# Altium schematic symbol library Sajad_Altium_Library.SchLib: 340 symbols (part 1 of 4)
Pins are listed as number, name and electrical type; pins without a type are passive.

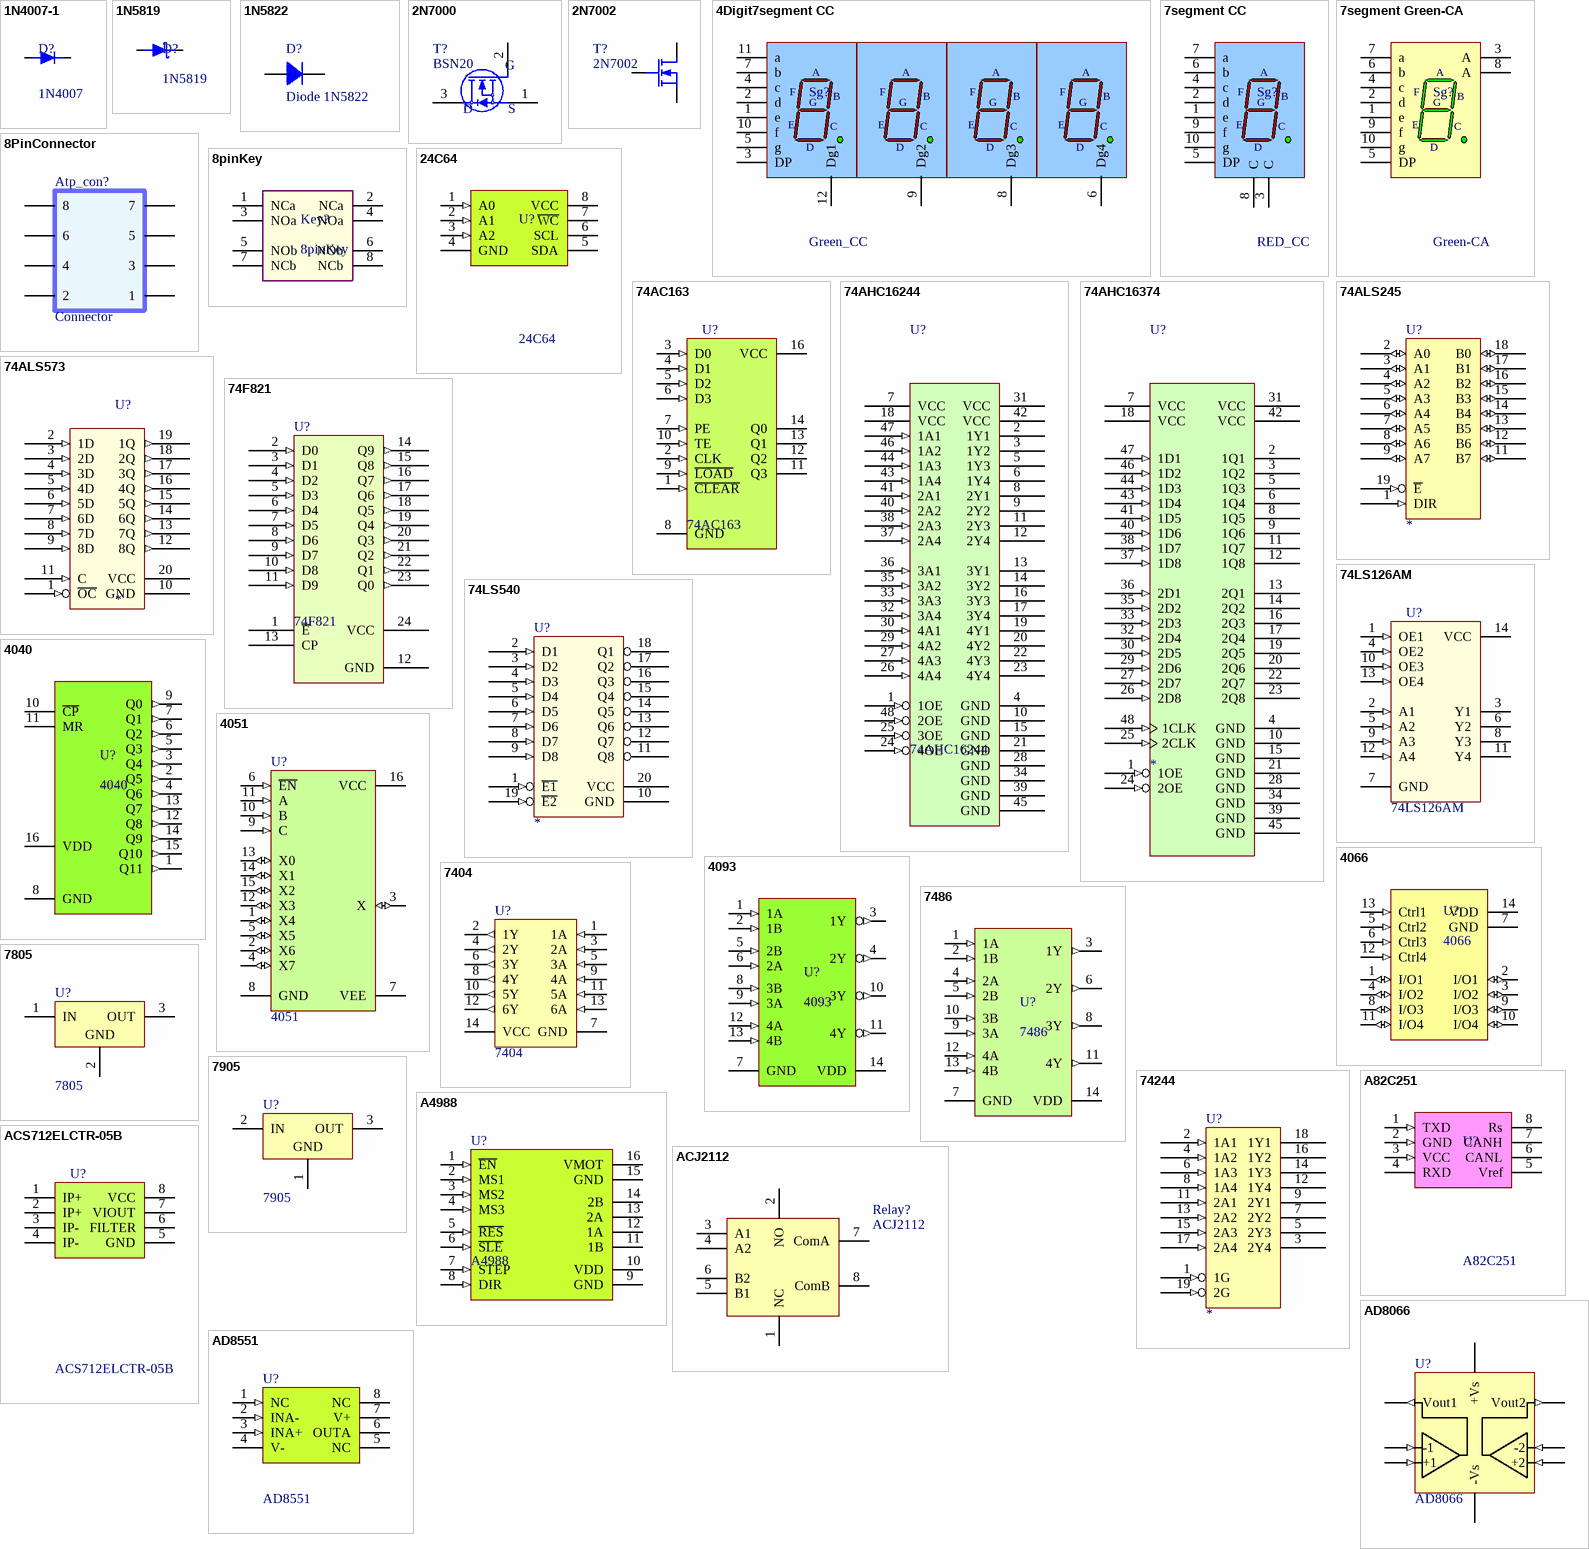
[diagram p0: symbols 1N4007-1 to AD8551]

## 1N4007-1
designator D?, comment 1N4007
1N4007 smd diode
footprint DO-214AC (1N4001-7 SMD DIODE)
footprint Diode -standing (Axial)
pins: 1 A, 2 K

## 1N5819
designator D?
1N5819 Schottky diode
footprint DO-214AC (1N4001-7 SMD DIODE)
footprint Diode -standing (Axial)
pins: 1 A, 2 K

## 1N5822
designator D?, comment Diode 1N5822
3 Amp Medium Power Silicon Rectifier Diode; Published: 8-Jun-2000; LatestRevisionDate: 17-Jul-2002; LatestRevisionNote: Re-released for DXP Platform.; DatasheetDocument: Aug-1984; PackageReference: DO-201AD; Publisher: Altium Limited; ComponentLink1Description: Manufacturer Link; ComponentLink1URL: http://www.irf.com/
footprint DO-201AD (Diode, Axial; Body 9.5 x 5.6 mm (LxDia. max), Lead Dia. 1.32 mm (max))
pins: 1 A, 2 K

## 2N7000
designator T?, comment BSN20
footprint SOT23-3L (Footprint not found)
footprint SOT23-213 (Footprint not found)
pins: 1 S, 2 G, 3 D

## 2N7002
designator T?
N-Channel Enhancement Mode Field Effect Transistor
footprint SOT23
pins: 1 G, 2 S, 3 D

## 4Digit7segment CC
designator Sg?, comment Green_CC
4 Digit 7-Segment Display: CC,; Colour: Green; ComponentLink1Description: Manufacturer Link; ComponentLink1URL: http://www.agilent.com/
footprint 4Digit 7SEGMENT
pins: 1 e "Cathode", 2 d "Cathode", 3 DP "Cathode", 4 c "Cathode", 5 g "Cathode", 6 Dg4 "Anode", 7 b "Cathode", 8 Dg3 "Anode", 9 Dg2 "Anode", 10 f "Cathode", 11 a "Cathode", 12 Dg1 "Anode"
text: A; F; B; G; E; C; D

## 7segment CC
designator Sg?, comment RED_CC
7-Segment Display: CC, RH DP; Colour: Green; ComponentLink1Description: Manufacturer Link; ComponentLink1URL: http://www.agilent.com/
footprint 7SEGMENT
pins: 1 e "Cathode", 2 d "Cathode", 3 C "Anode", 4 c "Cathode", 5 DP "Cathode", 6 b "Cathode", 7 a "Cathode", 8 C "Anode", 9 f "Cathode", 10 g "Cathode"
text: A; F; B; G; E; D

## 7segment Green-CA
designator Sg?, comment Green-CA
7-Segment Display: CA, RH DP; Colour: Green; ComponentLink1Description: Manufacturer Link; ComponentLink1URL: http://www.agilent.com/
footprint 7SEGMENT
pins: 1 e "Cathode", 2 d "Cathode", 3 A "Anode", 4 c "Cathode", 5 DP "Cathode", 6 b "Cathode", 7 a "Cathode", 8 A "Anode", 9 f "Cathode", 10 g "Cathode"
text: F; B; G; E; C; D

## 8PinConnector
designator Atp_con?, comment Connector
8PinConnector for Anti pinch 206
footprint 8pinConnector (8PinConnector for Anti pinch 206)
footprint 8PinConnector2 (ATP Connector)
pins: 1 (power), 2 (power), 3 (power), 4 (power), 5 (power), 6 (power), 7 (power), 8 (power)

## 8pinKey
designator Key?
footprint 8pinKey (8PinKey)
pins: 1 NCa, 2 NCa, 3 NOa, 4 NOa, 5 NOb, 6 NOb, 7 NCb, 8 NCb

## 24C64
designator U?
64Kbit Serial I²C Bus EEPROM
footprint SO8
pins: 1 A0 (in), 2 A1 (in), 3 A2 (in), 4 GND (power), 5 SDA (power), 6 SCL, 7 ~{WC} (power), 8 VCC (power)

## 74AC163
designator U?
SYNCHRONOUS PRESETTABLE 4-BIT COUNTER
footprint SO16
pins: 1 ~{CLEAR} (in), 2 CLK (in), 3 D0 (in), 4 D1 (in), 5 D2 (in), 6 D3 (in), 7 PE (in), 8 GND (power), 9 ~{LOAD} (in), 10 TE (in), 11 Q3 (hiz), 12 Q2 (hiz), 13 Q1 (hiz), 14 Q0 (hiz), 16 VCC (power)

## 74AHC16244
designator U?
16-Bit Buffer with 3-State Outputs
footprint TSSOP48
footprint TVSOP48
footprint SSOP48
pins: 1 1OE (in), 2 1Y1 (hiz), 3 1Y2 (hiz), 4 GND (power), 5 1Y3 (hiz), 6 1Y4 (hiz), 7 VCC (power), 8 2Y1 (hiz), 9 2Y2 (hiz), 10 GND (power), 11 2Y3 (hiz), 12 2Y4 (hiz), 13 3Y1 (hiz), 14 3Y2 (hiz), 15 GND (power), 16 3Y3 (hiz), 17 3Y4 (hiz), 18 VCC (power), 19 4Y1 (hiz), 20 4Y2 (hiz), 21 GND (power), 22 4Y3 (hiz), 23 4Y4 (hiz), 24 4OE (in), 25 3OE (in), 26 4A4 (in), 27 4A3 (in), 28 GND (power), 29 4A2 (in), 30 4A1 (in), 31 VCC (power), 32 3A4 (in), 33 3A3 (in), 34 GND (power), 35 3A2 (in), 36 3A1 (in), 37 2A4 (in), 38 2A3 (in), 39 GND (power), 40 2A2 (in), 41 2A1 (in), 42 VCC (power), 43 1A4 (in), 44 1A3 (in), 45 GND (power), 46 1A2 (in), 47 1A1 (in), 48 2OE (in)

## 74AHC16374
designator U?
16-Bit Edge-Triggered D-Type Flip-Flops with 3-State Outputs
footprint TSSOP48
footprint TVSOP48
footprint SSOP48
pins: 1 1OE (in), 2 1Q1 (hiz), 3 1Q2 (hiz), 4 GND (power), 5 1Q3 (hiz), 6 1Q4 (hiz), 7 VCC (power), 8 1Q5 (hiz), 9 1Q6 (hiz), 10 GND (power), 11 1Q7 (hiz), 12 1Q8 (hiz), 13 2Q1 (hiz), 14 2Q2 (hiz), 15 GND (power), 16 2Q3 (hiz), 17 2Q4 (hiz), 18 VCC (power), 19 2Q5 (hiz), 20 2Q6 (hiz), 21 GND (power), 22 2Q7 (hiz), 23 2Q8 (hiz), 24 2OE (in), 25 2CLK (in), 26 2D8 (in), 27 2D7 (in), 28 GND (power), 29 2D6 (in), 30 2D5 (in), 31 VCC (power), 32 2D4 (in), 33 2D3 (in), 34 GND (power), 35 2D2 (in), 36 2D1 (in), 37 1D8 (in), 38 1D7 (in), 39 GND (power), 40 1D6 (in), 41 1D5 (in), 42 VCC (power), 43 1D4 (in), 44 1D3 (in), 45 GND (power), 46 1D2 (in), 47 1D1 (in), 48 1CLK (in)

## 74ALS245
designator U?
Octal Bus Transceiver
footprint DIP20
footprint SOL-20
footprint DIPS20
footprint SSOP20
pins: 1 DIR (in), 2 A0 (io), 3 A1 (io), 4 A2 (io), 5 A3 (io), 6 A4 (io), 7 A5 (io), 8 A6 (io), 9 A7 (io), 10 GND (power) hidden to GND, 11 B7 (io), 12 B6 (io), 13 B5 (io), 14 B4 (io), 15 B3 (io), 16 B2 (io), 17 B1 (io), 18 B0 (io), 19 ~{E} (in), 20 VCC (power) hidden to VCC

## 74ALS573
designator U?
Octal Transparent Latch
footprint DIP20
footprint SOL-20
footprint SSOP20
pins: 1 ~{OC} (in), 2 1D (in), 3 2D (in), 4 3D (in), 5 4D (in), 6 5D (in), 7 6D (in), 8 7D (in), 9 8D (in), 10 GND (power), 11 C (in), 12 8Q (out), 13 7Q (out), 14 6Q (out), 15 5Q (out), 16 4Q (out), 17 3Q (out), 18 2Q (out), 19 1Q (out), 20 VCC (power)

## 74F821
designator U?
10-bit bus interface register, non-inverting (3-State)
pins: 1 ~{E}, 2 D0 (in), 3 D1 (in), 4 D2 (in), 5 D3 (in), 6 D4 (in), 7 D5 (in), 8 D6 (in), 9 D7 (in), 10 D8 (in), 11 D9 (in), 12 GND (power), 13 CP, 14 Q9 (out), 15 Q8 (out), 16 Q7 (out), 17 Q6 (out), 18 Q5 (out), 19 Q4 (out), 20 Q3 (out), 21 Q2 (out), 22 Q1 (out), 23 Q0 (out), 24 VCC (power)

## 74LS126AM
designator U?
Quad 3-State Buffer; Published: 17-Jul-2002; LatestRevisionDate: 13-Apr-2006; LatestRevisionNote: IPC-7351 Footprint Added.; DatasheetVersion: Mar-1998; PackageVersion: 2000; PackageReference: M14A; Publisher: Altium Limited; PackageDescription: 14-Pin Small Outline Integrated Circuit 1.27 mm Pitch; Code_IPC: SOIC127P600-14; ComponentLink1Description: Manufacturer Link; ComponentLink1URL: http://www.fairchildsemi.com/
footprint SO14_M (SOIC, 14-Leads, Body 8.7x3.9mm, Pitch 1.27mm, IPC Low Density)
footprint SO14_Big
pins: 1 OE1 (in), 2 A1 (in), 3 Y1 (hiz), 4 OE2 (in), 5 A2 (in), 6 Y2 (hiz), 7 GND (power), 8 Y3 (hiz), 9 A3 (in), 10 OE3 (in), 11 Y4 (hiz), 12 A4 (in), 13 OE4 (in), 14 VCC (power)

## 74LS540
designator U?
Octal Inverting Buffer
footprint DIP20
footprint SOL-20
footprint DIPS20
footprint SSOP20
pins: 1 ~{E1} (in), 2 D1 (in), 3 D2 (in), 4 D3 (in), 5 D4 (in), 6 D5 (in), 7 D6 (in), 8 D7 (in), 9 D8 (in), 10 GND (power), 11 Q8 (hiz), 12 Q7 (hiz), 13 Q6 (hiz), 14 Q5 (hiz), 15 Q4 (hiz), 16 Q3 (hiz), 17 Q2 (hiz), 18 Q1 (hiz), 19 ~{E2} (in), 20 VCC (power)

## 4040
designator U?
12-stage binary ripple counter
footprint SO16
pins: 1 Q11 (out), 2 Q5 (out), 3 Q4 (out), 4 Q6 (out), 5 Q3 (out), 6 Q2 (out), 7 Q1 (out), 8 GND (power), 9 Q0 (out), 10 ~{CP}, 11 MR, 12 Q8 (out), 13 Q7 (out), 14 Q9 (out), 15 Q10 (out), 16 VDD (power)

## 4051
designator U?
8-Channel Analog Multiplexer/Demultiplexer; Published: 17-Jul-2002; LatestRevisionDate: 13-Apr-2006; LatestRevisionNote: IPC-7351 Footprint Added.; DatasheetVersion: Jan-1999; PackageVersion: 2000; PackageReference: M16A; Publisher: Altium Limited; PackageDescription: 16-Pin Small Outline Integrated Circuit 1.27 mm Pitch; Code_IPC: SOIC127P600-16; ComponentLink1Description: Manufacturer Link; ComponentLink1URL: http://www.fairchildsemi.com/; ComponentLink2Description: Datasheet; ComponentLink2URL: http://www.fairchildsemi.com/ds/CD%2FCD4052BC.pdf
footprint SO16
pins: 1 X4 (io), 2 X6 (io), 3 X (io), 4 X7 (io), 5 X5 (io), 6 ~{EN} (in), 7 VEE (power), 8 GND (power), 9 C (in), 10 B (in), 11 A (in), 12 X3 (io), 13 X0 (io), 14 X1 (io), 15 X2 (io), 16 VCC (power)

## 4066
designator U?
4066 analog switch
footprint DIP14 (DIP; 14 Leads; Row Spacing 7.62 mm; Pitch 2.54 mm)
pins: 1 I/O1 (io), 2 I/O1 (io), 3 I/O2 (io), 4 I/O2 (io), 5 Ctrl2 (in), 6 Ctrl3 (in), 7 GND (power), 8 I/O3 (io), 9 I/O3 (io), 10 I/O4 (io), 11 I/O4 (io), 12 Ctrl4 (in), 13 Ctrl1 (in), 14 VDD (power)

## 4093
designator U?
Quad 2-Input NAND Schmitt-Trigger
footprint DIP14 (DIP; 14 Leads; Row Spacing 7.62 mm; Pitch 2.54 mm)
footprint SO14_M (SOIC, 14-Leads, Body 8.7x3.9mm, Pitch 1.27mm, IPC Low Density)
pins: 1 1A (in), 2 1B (in), 3 1Y (out), 4 2Y (out), 5 2B (in), 6 2A (in), 7 GND (power), 8 3B (in), 9 3A (in), 10 3Y (out), 11 4Y (out), 12 4A (in), 13 4B (in), 14 VDD (power)

## 7404
designator U?
7404 NOT Gate; Published: 13-Oct-2000; LatestRevisionDate: 13-Apr-2006; LatestRevisionNote: IPC-7351 Footprint Added.; DatasheetVersion: 1998; PackageReference: L16; Publisher: Altium Limited; PackageDescription: 16-Pin Small Outline Integrated Circuit 1.27 mm Pitch; Code_JEDEC: MS-012-AC; Code_IPC: SOIC127P600-16; ComponentLink1Description: Manufacturer Link; ComponentLink1URL: http://www.allegromicro.com/
footprint SO14_M (SOIC, 14-Leads, Body 8.7x3.9mm, Pitch 1.27mm, IPC Low Density)
pins: 1 1A (in), 2 1Y (out), 3 2A (in), 4 2Y (out), 5 3A (in), 6 3Y (out), 7 GND (power), 8 4Y (out), 9 4A (in), 10 5Y (out), 11 5A (in), 12 6Y (out), 13 6A (in), 14 VCC

## 7486
designator U?
Quad 2-Input Exclusive-OR Gate
footprint DIP14 (DIP; 14 Leads; Row Spacing 7.62 mm; Pitch 2.54 mm)
footprint SO14_M (SOIC, 14-Leads, Body 8.7x3.9mm, Pitch 1.27mm, IPC Low Density)
pins: 1 1A (in), 2 1B (in), 3 1Y (out), 4 2A (in), 5 2B (in), 6 2Y (out), 7 GND (power), 8 3Y (out), 9 3A (in), 10 3B (in), 11 4Y (out), 12 4A (in), 13 4B (in), 14 VDD (power)

## 7805
designator U?
Three-Terminal Positive Voltage Regulator; Note: Heatsink surface is connected to Pin 2; DatasheetVersion: 1997; PackageVersion: 1997; PackageReference: 221A-06; Publisher: Altium Limited; PackageDescription: TO, Thru-Hole, Vertical, Heatsink Mounted; 3 In-Line Leads; Pitch 2.54 mm; Code_JEDEC: TO-262-AA; ComponentLink1Description: Manufacturer Link; ComponentLink1URL: http://www.onsemi.com/site/products/taxonomy/0,4438,503,00.html; ComponentLink2Description: Datasheet; ComponentLink2URL: http://www.onsemi.com/pub/Collateral/MC7800-D.PDF
footprint 7905 Requlator_HeatSink (7905 Negative Regulator with Heat sink)
footprint 7805_Requlator (7805 Positive Regulator)
footprint 7805 smd
pins: 1 IN (power), 2 GND (power), 3 OUT (power)

## 7905
designator U?
Three-Terminal Negative Fixed Voltage Regulator; Note: Heatsink suface connected to pin 2.; Published: 17-Jul-2002; DatasheetVersion: 1988; PackageReference: 221A-04; Publisher: Altium Limited; PackageDescription: TO, Thru-Hole, Vertical, Heatsink Mounted; 3 In-Line Leads; Pitch 2.54 mm; Code_JEDEC: TO-262-AA; ComponentLink1Description: Manufacturer Link; ComponentLink1URL: http://www.onsemi.com/site/products/taxonomy/0,4438,503,00.html; ComponentLink2Description: Datasheet; ComponentLink2URL: http://www.onsemi.com/pub/Collateral/MC7900-D.PDF
footprint 7905 Requlator_HeatSink (7905 Negative Regulator with Heat sink)
footprint 7905_Requlator (7905 Negative Regulator)
pins: 1 GND (power), 2 IN (power), 3 OUT (power)

## 74244
designator U?
Octal Buffer
footprint DIP20
footprint SOL-20
footprint DIPS20
footprint SSOP20
pins: 1 1G (in), 2 1A1 (in), 3 2Y4 (hiz), 4 1A2 (in), 5 2Y3 (hiz), 6 1A3 (in), 7 2Y2 (hiz), 8 1A4 (in), 9 2Y1 (hiz), 10 GND (power) hidden to GND, 11 2A1 (in), 12 1Y4 (hiz), 13 2A2 (in), 14 1Y3 (hiz), 15 2A3 (in), 16 1Y2 (hiz), 17 2A4 (in), 18 1Y1 (hiz), 19 2G (in), 20 VCC (power) hidden to VCC

## A82C251
designator U?
CAN transceiver for 24 V systems; Link: http://javanelec.com/productsDetails.aspx?id=5836; Price: 24,670 Rial
footprint SO8
pins: 1 TXD (in), 2 GND (in), 3 VCC (in), 4 RXD (power), 5 Vref (power), 6 CANL, 7 CANH (power), 8 Rs (power)

## A4988
designator U?
A4988 Stepper Motor Driver
footprint A4988 (Stepper Motor Driver)
pins: 1 ~{EN} (in), 2 MS1 (in), 3 MS2 (in), 4 MS3 (in), 5 ~{RES} (in), 6 ~{SLE} (in), 7 STEP (in), 8 DIR (in), 9 GND (power), 10 VDD (power), 11 1B, 12 1A, 13 2A, 14 2B, 15 GND (power), 16 VMOT (power)

## ACJ2112
designator Relay?
SUPER MINIATURE  PC BOARD TYPE  AUTOMOTIVE RELAY
footprint ACJ2112
pins: 1 NC (power) "Normally Closed", 2 NO (power) "Normally Opened", 3 A1 "Coil A", 4 A2 "Coil A", 5 B1 "Coil B", 6 B2 "Coil B", 7 ComA (power) "Common A", 8 ComB (power) "Common B"

## ACS712ELCTR-05B
designator U?
Fully Integrated, Hall Effect-Based Linear Current Sensor IC; Link: http://www.javanelec.com/Shops/Index?searchFilter=ACS712
footprint SO8
pins: 1 IP+, 2 IP+, 3 IP-, 4 IP-, 5 GND (power), 6 FILTER (power), 7 VIOUT (power), 8 VCC (power)

## AD8066
designator U?
footprint MSOP-8
pins: 1 Vout1 (out), 2 -1 (in), 3 +1 (in), 4 -Vs (power), 5 +2 (in), 6 -2 (in), 7 Vout2 (out), 8 +Vs (power)

## AD8551
designator U?
Zero-Drift, Single-Supply, Rail-to-Rail  Input/Output Operational Amplifiers
footprint SO8
pins: 1 NC (in), 2 INA- (in), 3 INA+ (in), 4 V- (power), 5 NC (power), 6 OUTA, 7 V+ (power), 8 NC (power)

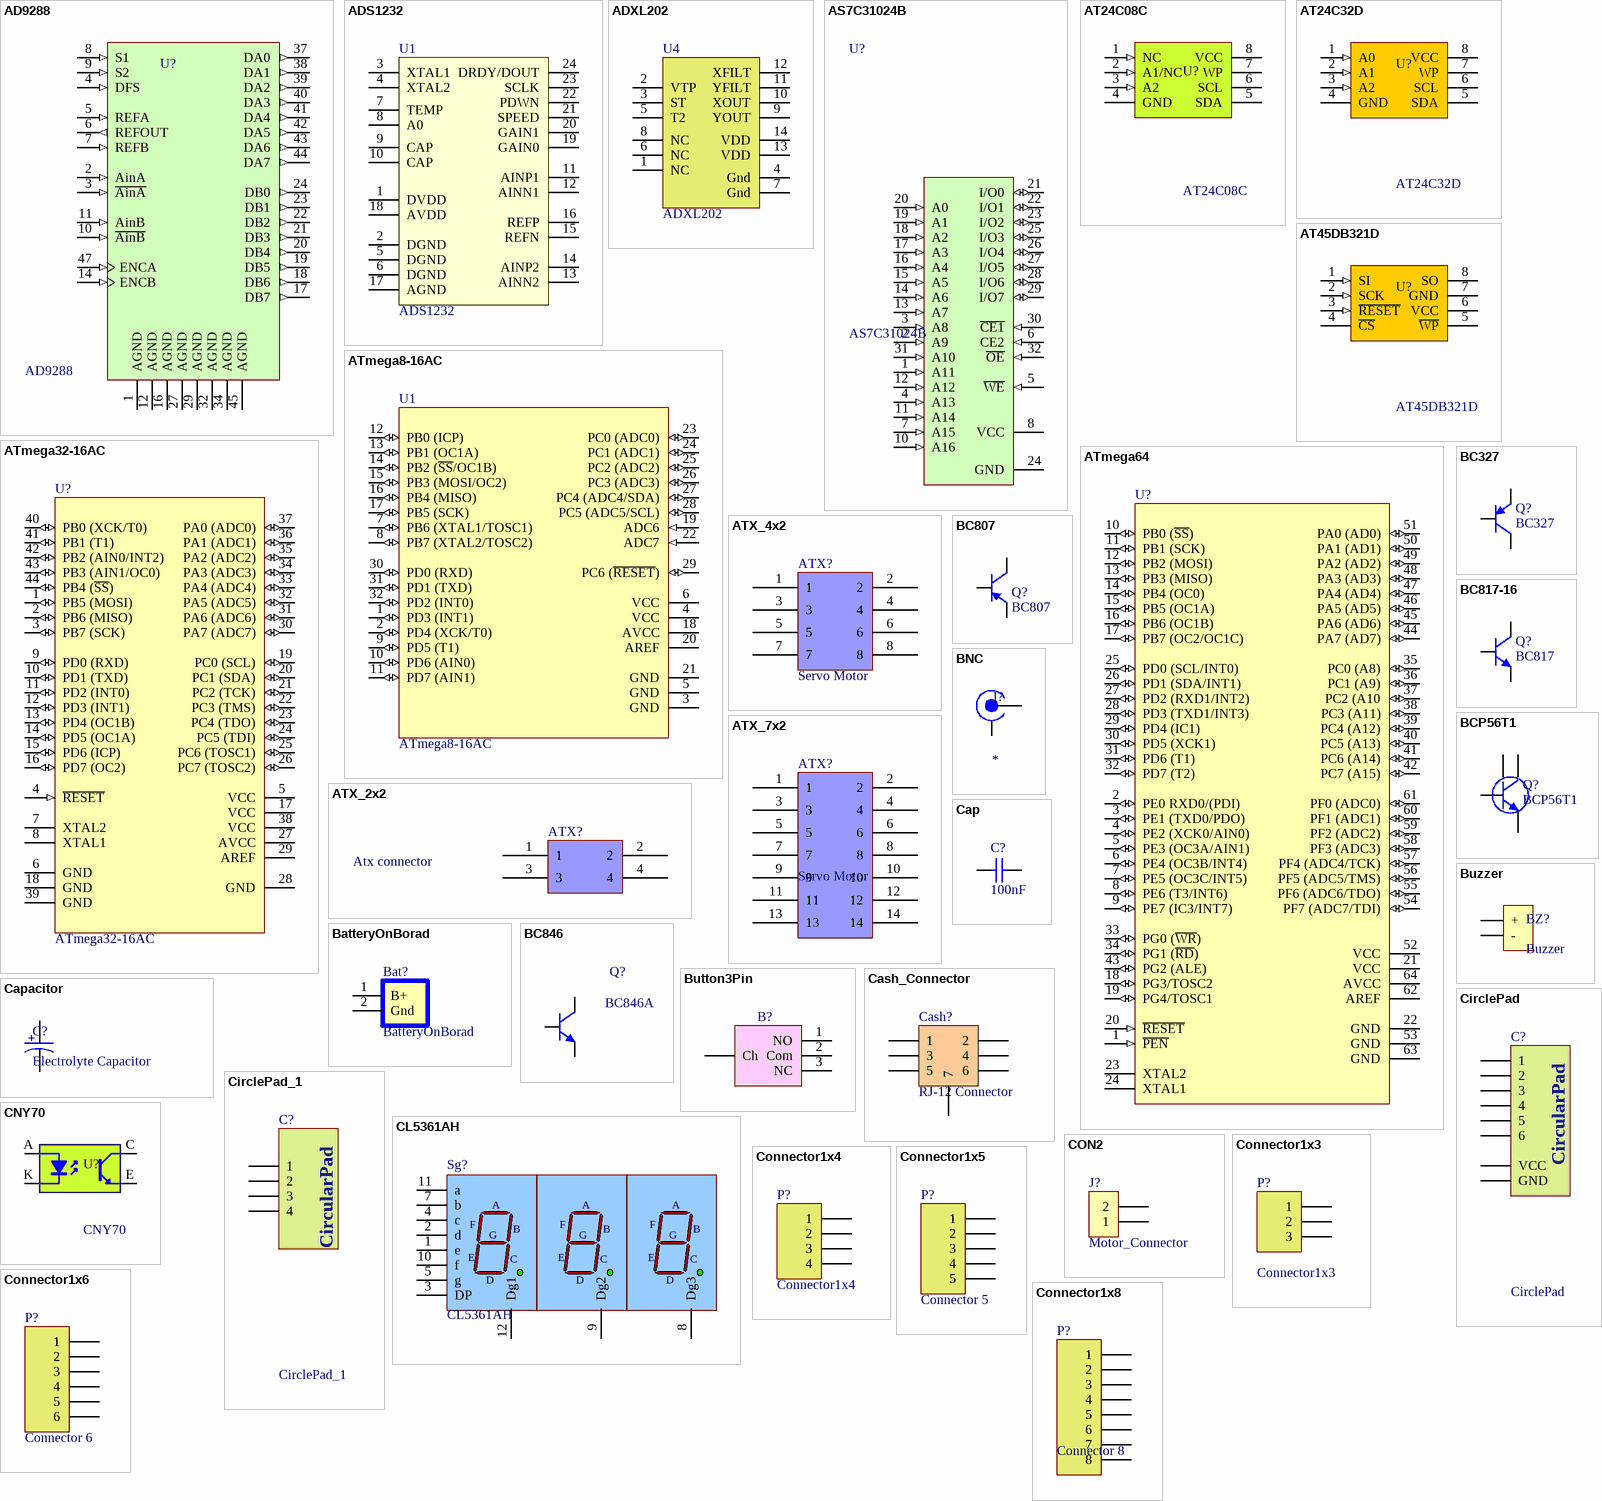
[diagram p1: symbols AD9288 to Connector1x8]

## AD9288
designator U?
Dual Channel ADC
footprint QFP24-7x7
pins: 1 AGND (power), 2 AinA (in), 3 ~{AinA} (in), 4 DFS (in), 5 REFA (in), 6 REFOUT (out), 7 REFB (in), 8 S1 (in), 9 S2 (in), 10 ~{AinB} (in), 11 AinB (in), 12 AGND (power), 13 VD (power), 14 ENCB (in), 15 VDD (power), 16 AGND (power), 17 DB7 (out), 18 DB6 (out), 19 DB5 (out), 20 DB4 (out), 21 DB3 (out), 22 DB2 (out), 23 DB1 (out), 24 DB0 (out), 27 AGND (power), 28 VDD (power), 29 AGND (power), 30 VD (power), 31 VD (power), 32 AGND (power), 33 VDD (power), 34 AGND (power), 37 DA0 (out), 38 DA1 (out), 39 DA2 (out), 40 DA3 (out), 41 DA4 (out), 42 DA5 (out), 43 DA6 (out), 44 DA7 (out), 45 AGND (power), 46 VDD (power), 47 ENCA (in), 48 VD (power)

## ADS1232
designator U1
Ultra Low-Noise, 24-Bit Analog-to-Digital Converter
footprint TSSOP 24 (SSOP, Plastic; 24 Leads; Body Width 5.3 mm; Pitch 0.65 mm)
pins: 1 DVDD, 2 DGND, 3 XTAL1, 4 XTAL2, 5 DGND, 6 DGND, 7 TEMP, 8 A0, 9 CAP, 10 CAP, 11 AINP1, 12 AINN1, 13 AINN2, 14 AINP2, 15 REFN, 16 REFP, 17 AGND, 18 AVDD, 19 GAIN0, 20 GAIN1, 21 SPEED, 22 PDWN, 23 SCLK, 24 DRDY/DOUT

## ADXL202
designator U4
Accelerometers with Digital Output
footprint ADXL202 (Accelerometers with Digital Output)
pins: 1 NC, 2 VTP, 3 ST, 4 Gnd, 5 T2, 6 NC, 7 Gnd, 8 NC, 9 YOUT, 10 XOUT, 11 YFILT, 12 XFILT, 13 VDD, 14 VDD

## AS7C31024B
designator U?
Alliance 1 Mbit (128k x 8bit) SRAM
footprint TSOP-32 8x20mm (Use with AS7C31024B)
pins: 1 A11 (in), 2 A9 (in), 3 A8 (in), 4 A13 (in), 5 ~{WE} (in), 6 CE2 (in), 7 A15 (in), 8 VCC (power), 10 A16 (in), 11 A14 (in), 12 A12 (in), 13 A7 (in), 14 A6 (in), 15 A5 (in), 16 A4 (in), 17 A3 (in), 18 A2 (in), 19 A1 (in), 20 A0 (in), 21 I/O0 (io), 22 I/O1 (io), 23 I/O2 (io), 24 GND (power), 25 I/O3 (io), 26 I/O4 (io), 27 I/O5 (io), 28 I/O6 (io), 29 I/O7 (io), 30 ~{CE1} (in), 31 A10 (in), 32 ~{OE} (in)

## AT24C08C
designator U?
I2C-Compatible  (2-wire)  Serial EEPROM 8Kbit (1024 x 8); Link: http://javanelec.com/productsDetails.aspx?id=3442; Price: 3150 Rial
footprint SO8
pins: 1 NC (in), 2 A1/NC (in), 3 A2 (in), 4 GND (power), 5 SDA (power), 6 SCL, 7 WP (power), 8 VCC (power)

## AT24C32D
designator U?
2-Wire Serial  Electrically  Erasable and  Programmable  Read-only  Memory
footprint SO8
pins: 1 A0 (in), 2 A1 (in), 3 A2 (in), 4 GND (power), 5 SDA (power), 6 SCL, 7 WP (power), 8 VCC (power)

## AT45DB321D
designator U?
32-megabit  2.7-volt  DataFlash; link: http://javanelec.com/productsDetails.aspx?id=3412
footprint SO8 - Big
pins: 1 SI (in), 2 SCK (in), 3 ~{RESET} (in), 4 ~{CS} (power), 5 ~{WP} (power), 6 VCC, 7 GND (power), 8 SO (power)

## ATmega8-16AC
designator U1
8-Bit AVR Microcontroller with 8K Bytes of In-System Programmable Flash Memory; Published: 17-Sep-2003; LatestRevisionDate: 13-Apr-2006; LatestRevisionNote: IPC-7351 Footprint Added.; DatasheetVersion: 2486H-AVR-09/02; PackageVersion: revB, Oct-2001; PackageReference: 32A; Publisher: Altium Limited; PackageDescription: 32-Pin Thin Quad Flat Pack 0.8 mm Pitch; Code_JEDEC: MS-026-ABA; ComponentLink1Description: Manufacturer Link; ComponentLink1URL: http://www.atmel.com; ComponentLink2Description: Datasheet; ComponentLink2URL: http://www.atmel.com/dyn/resources/prod_documents/doc2486.pdf
footprint LQFP32 (32-Pin Thin Quad Flat Pack 0.8 mm Pitch)
pins: 1 PD3 (INT1) (io), 2 PD4 (XCK/T0) (io), 3 GND (power), 4 VCC (power), 5 GND (power), 6 VCC (power), 7 PB6 (XTAL1/TOSC1) (io), 8 PB7 (XTAL2/TOSC2) (io), 9 PD5 (T1) (io), 10 PD6 (AIN0) (io), 11 PD7 (AIN1) (io), 12 PB0 (ICP) (io), 13 PB1 (OC1A) (io), 14 PB2 (~{SS}/OC1B) (io), 15 PB3 (MOSI/OC2) (io), 16 PB4 (MISO) (io), 17 PB5 (SCK) (io), 18 AVCC (power), 19 ADC6 (in), 20 AREF, 21 GND (power), 22 ADC7 (in), 23 PC0 (ADC0) (io), 24 PC1 (ADC1) (io), 25 PC2 (ADC2) (io), 26 PC3 (ADC3) (io), 27 PC4 (ADC4/SDA) (io), 28 PC5 (ADC5/SCL) (io), 29 PC6 (~{RESET}) (io), 30 PD0 (RXD) (io), 31 PD1 (TXD) (io), 32 PD2 (INT0) (io)

## ATmega32-16AC
designator U?
8-Bit AVR Microcontroller with 32K Bytes of In-System Programmable Flash Memory; Published: 17-Sep-2003; LatestRevisionDate: 13-Apr-2006; LatestRevisionNote: IPC-7351 Footprint Added.; DatasheetVersion: 2503C-AVR-10/02; PackageVersion: rev.B, Oct-2001; PackageReference: 44A; Publisher: Altium Limited; PackageDescription: 44-Pin Thin Quad Flat Pack 0.8 mm Pitch; ComponentLink1Description: Manufacturer Link; ComponentLink1URL: http://www.atmel.com; ComponentLink2Description: Datasheet; ComponentLink2URL: http://www.atmel.com/dyn/resources/prod_documents/doc2503.pdf
footprint LQFP44 (Thin QFP, 44-Leads, Body 10x10mm, Pitch 0.8mm, IPC Medium Density)
pins: 1 PB5 (MOSI) (io), 2 PB6 (MISO) (io), 3 PB7 (SCK) (io), 4 ~{RESET} (in), 5 VCC (power), 6 GND (power), 7 XTAL2, 8 XTAL1, 9 PD0 (RXD) (io), 10 PD1 (TXD) (io), 11 PD2 (INT0) (io), 12 PD3 (INT1) (io), 13 PD4 (OC1B) (io), 14 PD5 (OC1A) (io), 15 PD6 (ICP) (io), 16 PD7 (OC2) (io), 17 VCC (power), 18 GND (power), 19 PC0 (SCL) (io), 20 PC1 (SDA) (io), 21 PC2 (TCK) (io), 22 PC3 (TMS) (io), 23 PC4 (TDO) (io), 24 PC5 (TDI) (io), 25 PC6 (TOSC1) (io), 26 PC7 (TOSC2) (io), 27 AVCC (power), 28 GND (power), 29 AREF, 30 PA7 (ADC7) (io), 31 PA6 (ADC6) (io), 32 PA5 (ADC5) (io), 33 PA4 (ADC4) (io), 34 PA3 (ADC3) (io), 35 PA2 (ADC2) (io), 36 PA1 (ADC1) (io), 37 PA0 (ADC0) (io), 38 VCC (power), 39 GND (power), 40 PB0 (XCK/T0) (io), 41 PB1 (T1) (io), 42 PB2 (AIN0/INT2) (io), 43 PB3 (AIN1/OC0) (io), 44 PB4 (~{SS}) (io)

## ATmega64
designator U?  (value not drawn)
8-Bit AVR; Published: 17-Sep-2003; LatestRevisionDate: 13-Apr-2006; LatestRevisionNote: IPC-7351 Footprint Added.; DatasheetVersion: 2490C-AVR-009/02; PackageVersion: revB, Oct-2001; PackageReference: 64A; Publisher: Altium Limited; PackageDescription: 64-Pin Thin Quad Flat Pack 0.8 mm Pitch; Code_JEDEC: MS-026-AEB; ComponentLink1Description: Manufacturer Link; ComponentLink1URL: http://www.atmel.com; ComponentLink2Description: Datasheet; ComponentLink2URL: http://www.atmel.com/dyn/resources/prod_documents/doc2490.pdf
footprint LQFP 64 (64-Pin Thin Quad Flat Pack 0.8 mm Pitch)
pins: 1 ~{PEN} (in), 2 PE0 RXD0/(PDI) (io), 3 PE1 (TXD0/PDO) (io), 4 PE2 (XCK0/AIN0) (io), 5 PE3 (OC3A/AIN1) (io), 6 PE4 (OC3B/INT4) (io), 7 PE5 (OC3C/INT5) (io), 8 PE6 (T3/INT6) (io), 9 PE7 (IC3/INT7) (io), 10 PB0 (~{SS}) (io), 11 PB1 (SCK) (io), 12 PB2 (MOSI) (io), 13 PB3 (MISO) (io), 14 PB4 (OC0) (io), 15 PB5 (OC1A) (io), 16 PB6 (OC1B) (io), 17 PB7 (OC2/OC1C) (io), 18 PG3/TOSC2 (io), 19 PG4/TOSC1 (io), 20 ~{RESET} (in), 21 VCC (power), 22 GND (power), 23 XTAL2, 24 XTAL1, 25 PD0 (SCL/INT0) (io), 26 PD1 (SDA/INT1) (io), 27 PD2 (RXD1/INT2) (io), 28 PD3 (TXD1/INT3) (io), 29 PD4 (IC1) (io), 30 PD5 (XCK1) (io), 31 PD6 (T1) (io), 32 PD7 (T2) (io), 33 PG0 (~{WR}) (io), 34 PG1 (~{RD}) (io), 35 PC0 (A8) (io), 36 PC1 (A9) (io), 37 PC2 (A10 (io), 38 PC3 (A11) (io), 39 PC4 (A12) (io), 40 PC5 (A13) (io), 41 PC6 (A14) (io), 42 PC7 (A15) (io), 43 PG2 (ALE) (io), 44 PA7 (AD7) (io), 45 PA6 (AD6) (io), 46 PA5 (AD5) (io), 47 PA4 (AD4) (io), 48 PA3 (AD3) (io), 49 PA2 (AD2) (io), 50 PA1 (AD1) (io), 51 PA0 (AD0) (io), 52 VCC (power), 53 GND (power), 54 PF7 (ADC7/TDI) (io), 55 PF6 (ADC6/TDO) (io), 56 PF5 (ADC5/TMS) (io), 57 PF4 (ADC4/TCK) (io), 58 PF3 (ADC3) (io), 59 PF2 (ADC2) (io), 60 PF1 (ADC1) (io), 61 PF0 (ADC0) (io), 62 AREF, 63 GND (power), 64 AVCC (power)

## ATX_2x2
designator ATX?, comment Atx connector
ATX 2x2 RIGHT ANGLE
footprint ATX 2X2 RIGHT ANGLE
pins: 1 (power), 2 (power), 3 (power), 4 (power)
1 alternate drawing of the same symbol

## ATX_4x2
designator ATX?, comment Servo Motor
ATX 4X2 CONNECTOR
footprint ATX 4X2 RIGHT ANGLE
pins: 1 (power), 2 (power), 3 (power), 4 (power), 5 (power), 6 (power), 7 (power), 8 (power)

## ATX_7x2
designator ATX?, comment Servo Motor
ATX 7X2 CONNECTOR
footprint ATX 7X2 RIGHT ANGLE
pins: 1 (power), 2 (power), 3 (power), 4 (power), 5 (power), 6 (power), 7 (power), 8 (power), 9 (power), 10 (power), 11 (power), 12 (power), 13 (power), 14 (power)

## BatteryOnBorad
designator Bat?
footprint BATTERYONBORAD1
footprint BATTERYONBORAD2
pins: 1 B+ (power), 2 Gnd (power)

## BC327
designator Q?
Amplifier Transistor PNP Silicon; Published: 29-Sep-2000; LatestRevisionDate: 17-Jul-2002; LatestRevisionNote: Re-released for DXP Platform.; DatasheetVersion: 1996; PackageVersion: 1996; PackageReference: 29-04; Publisher: Altium Limited; PackageDescription: TO, Flat Index; 3 In-Line, Axial Leads; Body Dia. 4.8mm; Leads 0.48 x 0.5 mm (max); ComponentLink1Description: Manufacturer Link; ComponentLink1URL: http://www.onsemi.com/site/products/landing?taxonomyID=194; ComponentLink2Description: Datasheet; ComponentLink2URL: http://www.onsemi.com/pub/Collateral/BC327-D.PDF
footprint SOT95P230-3M (SOT23, 3-Leads, Body 2.9x1.3mm, Pitch 0.95mm, Lead Span 2.3mm - Alternate Lead Configuration, IPC Low Density)
pins: 1 C, 2 B, 3 E

## BC807
designator Q?
45 V, 500 mA PNP general-purpose transistors; Published: 29-Sep-2000; LatestRevisionDate: 17-Jul-2002; LatestRevisionNote: Re-released for DXP Platform.; DatasheetVersion: 1996; PackageVersion: 1996; PackageReference: 29-04; Publisher: Altium Limited; PackageDescription: TO, Flat Index; 3 In-Line, Axial Leads; Body Dia. 4.8mm; Leads 0.48 x 0.5 mm (max); ComponentLink1Description: Manufacturer Link; ComponentLink1URL: http://www.onsemi.com/site/products/landing?taxonomyID=194; ComponentLink2Description: Datasheet; ComponentLink2URL: http://www.onsemi.com/pub/Collateral/BC327-D.PDF
footprint SOT23
footprint SOT23_
pins: 1 B, 2 E, 3 C

## BC817-16
designator Q?, comment BC817
NPN General-purpose Transistor; Published: 17-Sep-2003; LatestRevisionDate: 12-Dec-2006; LatestRevisionNote: IPC-7351 Footprint Added.; DatasheetVersion: Jun-1999; PackageVersion: May-1999; PackageReference: SOT23; Publisher: Altium Limited; PackageDescription: 3-Pin SOT-23 Package 0.95 mm Pitch, 2.3 mm Lead Span; ComponentLink1Description: Manufacturer Link; ComponentLink1URL: http://www.semiconductors.philips.com/; ComponentLink2Description: Datasheet; ComponentLink2URL: http://www.semiconductors.philips.com/acrobat/datasheets/BC817_BC817W_BC337_5.pdf
footprint SOT23
footprint SOT23_
pins: 1 B, 2 E, 3 C

## BC846
designator Q?, comment BC846A
Transistor_NPN General Purpose Amplifier
footprint BC846
pins: 1 B, 2 C, 3 E

## BCP56T1
designator Q?
1A MEDIUM POWER NPN SILICON  HIGH CURRENT TRANSISTOR; Link: http://javanelec.com/productsDetails.aspx?id=18757
footprint SOT223
pins: 1 B, 2 C, 3 E, 4 C

## BNC
designator J?
BNC Connector
footprint AMP31-5540
footprint AMP31-203
pins: 1 SIGNAL, 2 SHIELD

## Button3Pin
designator B?, comment Button  (value not drawn)
Button3pin
footprint Button3Pin
pins: 1 NO, 2 Com, 3 NC, 4 Ch

## Buzzer
designator BZ?
Buzzer 6v to 24 v
footprint Buzzer_Big (Buzzer 6v to 24v)
footprint Buzzer_Small (Buzzer 6v to 24v)
footprint Buzzer
pins: 1 + (power), 2 - (power)

## Cap
designator C?, comment 100nF
Capacitor; Published: 8-Jun-2000; LatestRevisionDate: 17-Jul-2002; LatestRevisionNote: Re-released for DXP Platform.; PackageReference: RAD-0.3; Publisher: Altium Limited
footprint 1206 -cap
footprint 0805 - big
footprint 0603-Cap
footprint 0805 - Cap
footprint AXIAL -0.4 Varistor (Axial Device, Thru-Hole; 2 Leads; 0.4 in Pin Spacing)
footprint VP32-3.2 (Capacitor, Ceramic, Thru-Hole, Dipped Radial; Body 5.1 x 3.2 mm (WxT) Pin Spacing 2.54 mm (typ))
footprint 0603-Cap -sm
footprint 0805_MediumCap
pins: 1, 2

## Capacitor
designator C?, comment Electrolyte Capacitor
footprint Cap 4700uf 50v
footprint cap 100uf 25v
footprint cap 10uf 50v
footprint cap 220uf 16v
footprint Cap 2200uf 25v
footprint cap 470uf 25v
footprint Cap 2200uf 50v
footprint 100U_SMD
footprint CAP 220UF 25V (cap 220uf 25v)
footprint Cap 5 x 5.5 (5 x 5.5mm Smd Capacitor)
footprint Cap 5.3 x 6.3 (5.3 x 6.3 mm Smd Capacitor)
footprint 3528 (Tantalum Capacitor Case B)
pins: 1, 2
text: +

## Cash_Connector
designator Cash?, comment RJ-12 Connector
LatestRevisionDate: 17-Jul-2002; LatestRevisionNote: Re-released for DXP Platform.; Publisher: Altium Limited
footprint JACK1.27-2H6 (Connector; PCB Jack, Thru-Hole; 1-Port, 6 Positions, 6 Loaded; Unshielded without Lightpipes; Right Angle)
pins: 1, 2, 3, 4, 5, 6, 7

## CirclePad
designator C?
For Mirror Control
footprint MirrorJoystick (Dena & Samand Car)
pins: 1, 2, 3, 4, 5, 6, GND, VCC
text: CircularPad

## CirclePad_1
designator C?
For Mirror Control
footprint CirclePad
pins: 1, 2, 3, 4
text: CircularPad

## CL5361AH
designator Sg?
3 Digit 7-Segment Display: CC, Red
footprint 3Digit 7SEGMENT
pins: 1 e "Cathode", 2 d "Cathode", 3 DP "Cathode", 4 c "Cathode", 5 g "Cathode", 7 b "Cathode", 8 Dg3 "Anode", 9 Dg2 "Anode", 10 f "Cathode", 11 a "Cathode", 12 Dg1 "Anode"
text: A; F; B; G; E; C; D

## CNY70
designator U?
Reflective Optical Sensor with Transistor Output
footprint CNY70
pins: A "Anode", C "Collector", E "Emitter", K "Cathode"

## CON2
designator J?, comment Motor_Connector
Connector
footprint MOTOR_CON_ATP
footprint MOTOR_CON2 (AtpMotor)
pins: 1, 2

## Connector1x3
designator P?
Header, 3-Pin,2.5mm; LatestRevisionDate: 17-Jul-2002; LatestRevisionNote: Re-released for DXP Platform.; Publisher: Altium Limited
footprint Connector1x3 (Connector; Header; 3 Position)
pins: 1, 2, 3

## Connector1x4
designator P?
Header, 4-Pin,2.5mm; LatestRevisionDate: 17-Jul-2002; LatestRevisionNote: Re-released for DXP Platform.; Publisher: Altium Limited
footprint Connector1x4 (Connector; Header; 4 Position)
pins: 1, 2, 3, 4

## Connector1x5
designator P?, comment Connector 5
Connector, 5-Pin2.5mm; LatestRevisionDate: 17-Jul-2002; LatestRevisionNote: Re-released for DXP Platform.; Publisher: Altium Limited
footprint Connector1X5 (Connector; Header; 5 Position)
pins: 1, 2, 3, 4, 5

## Connector1x6
designator P?, comment Connector 6
Connector, 6-Pin2.5mm; LatestRevisionDate: 17-Jul-2002; LatestRevisionNote: Re-released for DXP Platform.; Publisher: Altium Limited
footprint Connector1X6 (Connector; Header; 6 Position)
pins: 1, 2, 3, 4, 5, 6

## Connector1x8
designator P?, comment Connector 8
Connector, 8-Pin2.5mm; LatestRevisionDate: 17-Jul-2002; LatestRevisionNote: Re-released for DXP Platform.; Publisher: Altium Limited
footprint CONNECTOR1X8 (Connector; Header; 8 Position)
pins: 1, 2, 3, 4, 5, 6, 7, 8

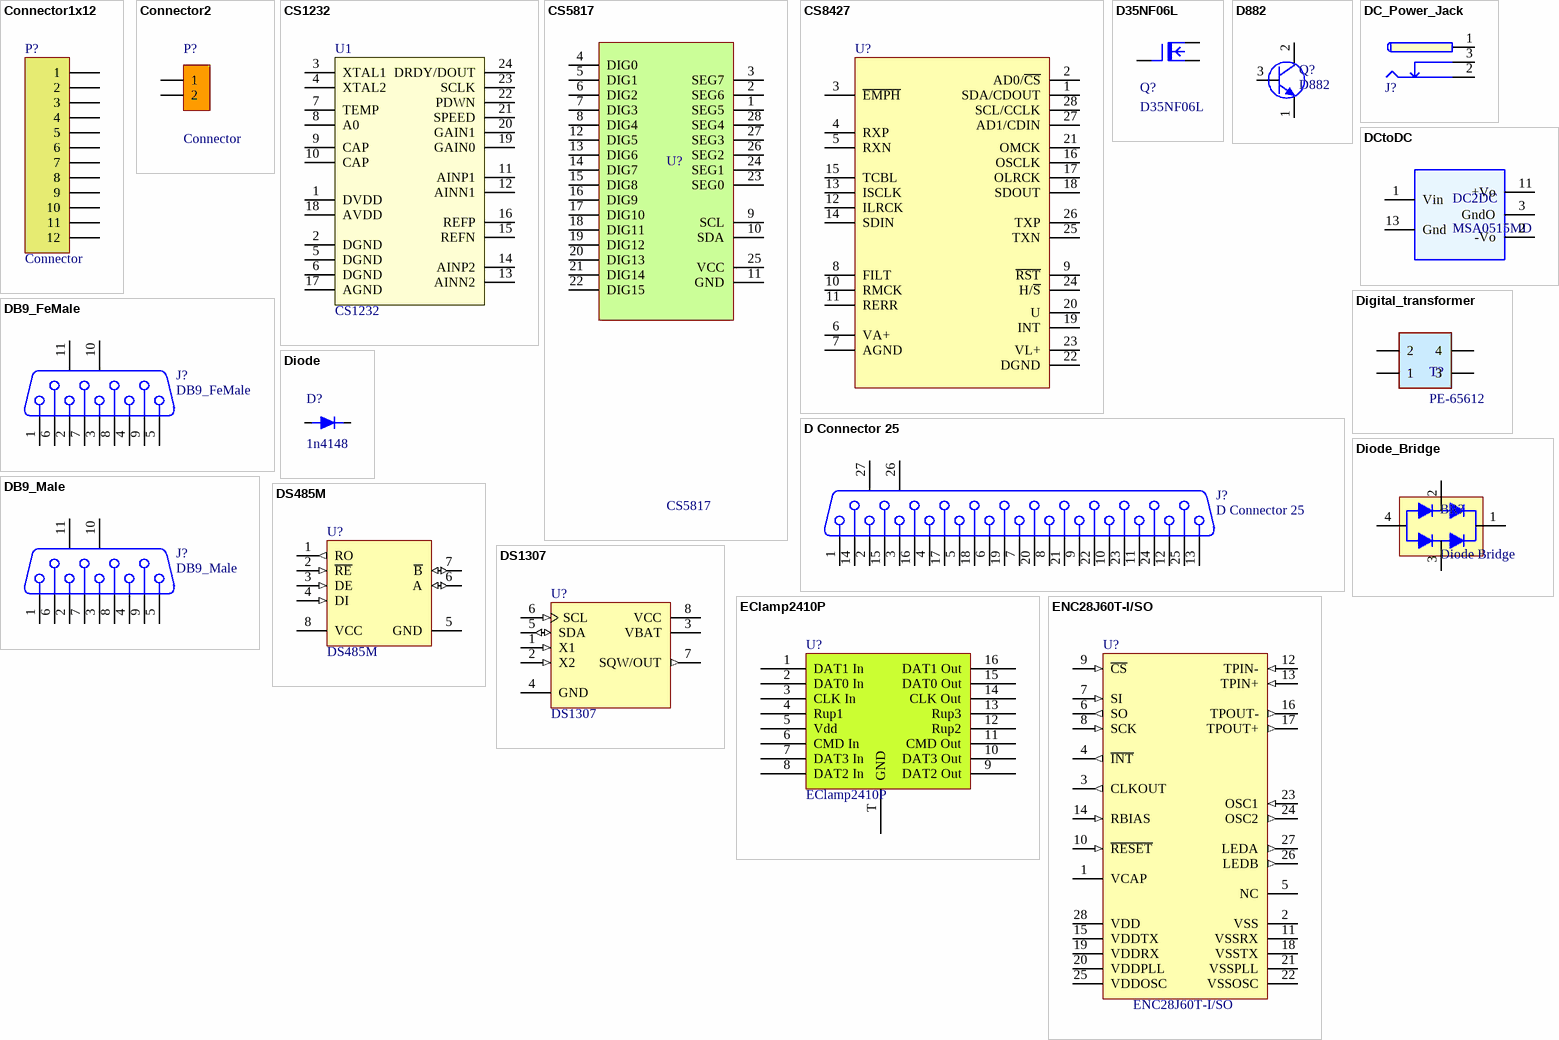
[diagram p2: symbols Connector1x12 to ENC28J60T-I/SO]

## Connector1x12
designator P?, comment Connector
Connector 12-Pin 2.5mm; LatestRevisionDate: 17-Jul-2002; LatestRevisionNote: Re-released for DXP Platform.; Publisher: Altium Limited
footprint Connector1X12 (Connector 1x12)
pins: 1, 2, 3, 4, 5, 6, 7, 8, 9, 10, 11, 12

## Connector2
designator P?, comment Connector
Connector 2pin 2.5mm
footprint Connector1X2 (Connector;  2.5 mm)
pins: 1, 2

## CS1232
designator U1
Ultra Low-Noise, 24-Bit Analog-to-Digital Converter
footprint TSSOP 24 (SSOP, Plastic; 24 Leads; Body Width 5.3 mm; Pitch 0.65 mm)
pins: 1 DVDD, 2 DGND, 3 XTAL1, 4 XTAL2, 5 DGND, 6 DGND, 7 TEMP, 8 A0, 9 CAP, 10 CAP, 11 AINP1, 12 AINN1, 13 AINN2, 14 AINP2, 15 REFN, 16 REFP, 17 AGND, 18 AVDD, 19 GAIN0, 20 GAIN1, 21 SPEED, 22 PDWN, 23 SCLK, 24 DRDY/DOUT

## CS5817
designator U?
LED display driver with 8 SEG× 16 DIG
footprint SOP28 (SOP28, 28-Leads)
footprint SDIP-28 (DIP, Plastic, 28-Pin, Row Spacing 10.16 mm, Pitch 1.778 mm)
pins: 1 SEG5, 2 SEG6, 3 SEG7, 4 DIG0, 5 DIG1, 6 DIG2, 7 DIG3, 8 DIG4, 9 SCL, 10 SDA, 11 GND, 12 DIG5, 13 DIG6, 14 DIG7, 15 DIG8, 16 DIG9, 17 DIG10, 18 DIG11, 19 DIG12, 20 DIG13, 21 DIG14, 22 DIG15, 23 SEG0, 24 SEG1, 25 VCC, 26 SEG2, 27 SEG3, 28 SEG4

## CS8427
designator U?  (value not drawn)
96 kHz Digital Audio Interface Transceiver
footprint TSSOP28 (TSOP, 28-Leads, Body 9.7x4.4mm, Pitch 0.65mm, IPC Low Density)
pins: 1 SDA/CDOUT, 2 AD0/~{CS}, 3 ~{EMPH}, 4 RXP, 5 RXN, 6 VA+, 7 AGND, 8 FILT, 9 ~{RST}, 10 RMCK, 11 RERR, 12 ILRCK, 13 ISCLK, 14 SDIN, 15 TCBL, 16 OSCLK, 17 OLRCK, 18 SDOUT, 19 INT, 20 U, 21 OMCK, 22 DGND, 23 VL+, 24 H/~{S}, 25 TXN, 26 TXP, 27 AD1/CDIN, 28 SCL/CCLK

## D35NF06L
designator Q?
Mosfet
footprint TO-252; pin to pad 2>4
pins: 1 G, 2 D, 3 S

## D882
designator Q?
NPN medium power transistor 3A; Published: 17-Sep-2003; LatestRevisionDate: 12-Dec-2006; LatestRevisionNote: IPC-7351 Footprint Added.; DatasheetVersion: Jun-1999; PackageVersion: May-1999; PackageReference: SOT23; Publisher: Altium Limited; PackageDescription: 3-Pin SOT-23 Package 0.95 mm Pitch, 2.3 mm Lead Span; ComponentLink1Description: Manufacturer Link; ComponentLink1URL: http://www.semiconductors.philips.com/; ComponentLink2Description: Datasheet; ComponentLink2URL: http://www.semiconductors.philips.com/acrobat/datasheets/BC817_BC817W_BC337_5.pdf
footprint SOT32 (TO -126) (SIP with Mounting Hole; 3 Leads; Body 10.7 x 7.6 x 2.6 mm (typ); Pitch 2.2 mm)
pins: 1 E, 2 C, 3 B

## D Connector 25
designator J?
Receptacle Assembly, 25 Position, Right Angle; PackageDocument: U; Positions: 25; Published: 15-Jun-2001; LatestRevisionDate: 17-Jul-2002; LatestRevisionNote: Re-released for DXP Platform.; DatasheetDocument: 19-Mar-1999; PackageReference: 787202; Publisher: Altium Limited; Orientation: Right Angle; Gender: Receptacle
footprint DB25_male (Connector; D Subminiature; 25 Position; Right Angle; Pitch 1.385 mm)
footprint DB25_female (Connector; D Subminiature; 25 Position; Right Angle; Pitch 1.385 mm)
pins: 1, 2, 3, 4, 5, 6, 7, 8, 9, 10, 11, 12, 13, 14, 15, 16, 17, 18, 19, 20, 21, 22, 23, 24, 25, 26 MH1, 27 MH2

## DB9_FeMale
designator J?
Receptacle Assembly, 9 Position, Right Angle; PackageDocument: O; Positions: 9; Published: 15-Jun-2001; LatestRevisionDate: 17-Jul-2002; LatestRevisionNote: Re-released for DXP Platform.; DatasheetDocument: 1-Sep-1999; PackageReference: 788750; Publisher: Altium Limited; Orientation: Right Angle; Gender: Receptacle
footprint DB9Female (DB9 Serial Connector)
pins: 1, 2, 3, 4, 5, 6, 7, 8, 9, 10 MH1, 11 MH2

## DB9_Male
designator J?
Receptacle Assembly, 9 Position, Right Angle; PackageDocument: O; Positions: 9; Published: 15-Jun-2001; LatestRevisionDate: 17-Jul-2002; LatestRevisionNote: Re-released for DXP Platform.; DatasheetDocument: 1-Sep-1999; PackageReference: 788750; Publisher: Altium Limited; Orientation: Right Angle; Gender: Receptacle
footprint DB9Male (DB9 Serial Connector)
pins: 1, 2, 3, 4, 5, 6, 7, 8, 9, 10 MH1, 11 MH2

## DC_Power_Jack
designator J?, comment DC Power Jack  (value not drawn)
footprint DC_Power_Jack
pins: 1 V+ (power), 2 GND (power), 3 GND1 (power)
2 alternate drawings of the same symbol

## DCtoDC
designator DC2DC, comment MSA0515MD
dc to dc 4.5-9 volt in +-15 volt out
footprint DC_DC (dc to dc footprint); pin to pad 1>1+24 2>2+23 3>3+22+10+15 11>11+14 13>12+13
pins: 1 Vin, 2 -Vo, 3 GndO, 11 +Vo, 13 Gnd

## Digital_transformer
designator T?, comment PE-65612
TRANSFORMERS FOR DIGITAL  AUDIO DATA TRANSMISSION; Code_IEC: 1005; Published: 8-Jun-2000; LatestRevisionDate: 17-Jul-2002; LatestRevisionNote: Re-released for DXP Platform.; PackageReference: 0402-A; Publisher: Altium Limited; Code_JEITA: 0402
footprint PE-65612 (TRANSFORMERS FOR DIGITAL  AUDIO DATA TRANSMISSION)
pins: 1, 2, 3, 4

## Diode
designator D?, comment 1n4148
footprint DO-214AC (1N4001-7 SMD DIODE)
footprint mini melf (1n4148 smd)
footprint SOD123 (Sod123)
pins: 1 A, 2 K

## Diode_Bridge
designator BR?, comment Diode Bridge
footprint Bridge_KBP204 (KBP204 Diode Bridge)
footprint Bridge_RS202 (RS202 Diode Bridge)
footprint Bridge_W10M (W10M Diode Bridge)
pins: 1, 2, 3, 4

## DS485M
designator U?
Low-Power RS-485/RS-422 Multipoint Transceiver, 8-pin Narrow SOIC; Manufacturer: National Semiconductor; PackageTopMarking: NSZXTT*DS485*M; PowerWise: N; CompType: Interface IC; Published: 4-Dec-2008; DatasheetVersion: Jul-1998; PackageVersion: revM, May-2009; PackageReference: M08A; Publisher: Altium Limited; PackageDescription: SOIC Narrow, 4.9 x 3.9 x 1.45mm, 8 Lead, 1.27mm Pitch; Supplier 1: Farnell; Supplier Part Number 1: 9490078; PartNumber: DS485M; RoHS: N; PinCount: 8; Code_JEDEC: MS-012-AA; Code_IPC: SOIC127P600-8; ComponentLink1Description: DS485 Datasheet; ComponentLink1URL: http://www.national.com/ds/DS/DS485.pdf; ComponentLink2Description: DS485 Web Page; ComponentLink2URL: http://www.national.com/pf/DS/DS485.html; ComponentLink3Description: M08A Package Page; ComponentLink3URL: http://www.national.com/packaging/folders/m08a.html
footprint SO8
pins: 1 RO (out), 2 ~{RE} (in), 3 DE (in), 4 DI (in), 5 GND (power), 6 A (io), 7 ~{B} (io), 8 VCC (power)

## DS1307
designator U?
64 X 8 Serial Real-Time Clock; Published: 13-Oct-2000; LatestRevisionDate: 06-Jun-2005; LatestRevisionNote: Stylized 3D Model Added.; DatasheetVersion: 10-Aug-1999; PackageVersion: 1999; PackageReference: DIP8; Publisher: Altium Limited; PackageDescription: DIP; 8 Leads; Row Spacing 7.62 mm; Pitch 2.54 mm; ComponentLink1Description: Manufacturer Link; ComponentLink1URL: http://www.maxim-ic.com/; ComponentLink2Description: Datasheet; ComponentLink2URL: http://pdfserv.maxim-ic.com/en/ds/DS1307.pdf; ComponentLink3Description: Discontinuation Notice; ComponentLink3URL: http://www.maxim-ic.com/qa/pdfs/non-obsolescence-letter.pdf
footprint SO8
pins: 1 X1 (in), 2 X2 (in), 3 VBAT (power), 4 GND (power), 5 SDA (io), 6 SCL (in), 7 SQW/OUT (out), 8 VCC (power)

## EClamp2410P
designator U?
ESD Protection Device   for T-Flash/MicroSD Interfaces
footprint SLP4016P16 (EClamp2410P  ESD Protection Device   for T-Flash/MicroSD Interfaces)
pins: 1 DAT1 In, 2 DAT0 In, 3 CLK In, 4 Rup1, 5 Vdd, 6 CMD In, 7 DAT3 In, 8 DAT2 In, 9 DAT2 Out, 10 DAT3 Out, 11 CMD Out, 12 Rup2, 13 Rup3, 14 CLK Out, 15 DAT0 Out, 16 DAT1 Out, T GND

## ENC28J60T-I/SO
designator U?
Stand-Alone Ethernet Controller with SPI Interface, 28-Pin SOIC, Industrial Temperature, Tape and Reel; FirstPublished: 29-Jan-2009; DatasheetVersion: RevC, Jan-2008; PackageVersion: revBB, Aug-2009; PackageReference: SOIC-SO28; Publisher: Altium Limited; PackageDescription: 28-Lead Plastic Small Outline (SO) - Wide 7.50mm Body [SOIC]; Supplier 1: Digi-Key; Supplier Part Number 1: ENC28J60T-I/SO-ND; Supplier 2: Newark; Supplier Part Number 2: 07P9118; Code_JEDEC: MS-013; ComponentLink1Description: Datasheet; ComponentLink1URL: http://ww1.microchip.com/downloads/en/DeviceDoc/39662c.pdf; ComponentLink2Description: Packaging Specification; ComponentLink2URL: http://www.microchip.com/stellent/groups/techpub_sg/documents/packagingspec/en012702.pdf; ComponentLink3Description: Microchip.com Home; ComponentLink3URL: http://www.microchip.com/
footprint SOP28 (SOP28, 28-Leads)
pins: 1 VCAP (power), 2 VSS (power), 3 CLKOUT (out), 4 ~{INT} (out), 5 NC, 6 SO (out), 7 SI (in), 8 SCK (in), 9 ~{CS} (in), 10 ~{RESET} (in), 11 VSSRX (power), 12 TPIN- (in), 13 TPIN+ (in), 14 RBIAS (in), 15 VDDTX (power), 16 TPOUT- (out), 17 TPOUT+ (out), 18 VSSTX (power), 19 VDDRX (power), 20 VDDPLL (power), 21 VSSPLL (power), 22 VSSOSC (power), 23 OSC1 (in), 24 OSC2 (out), 25 VDDOSC (power), 26 LEDB (out), 27 LEDA (out), 28 VDD (power)

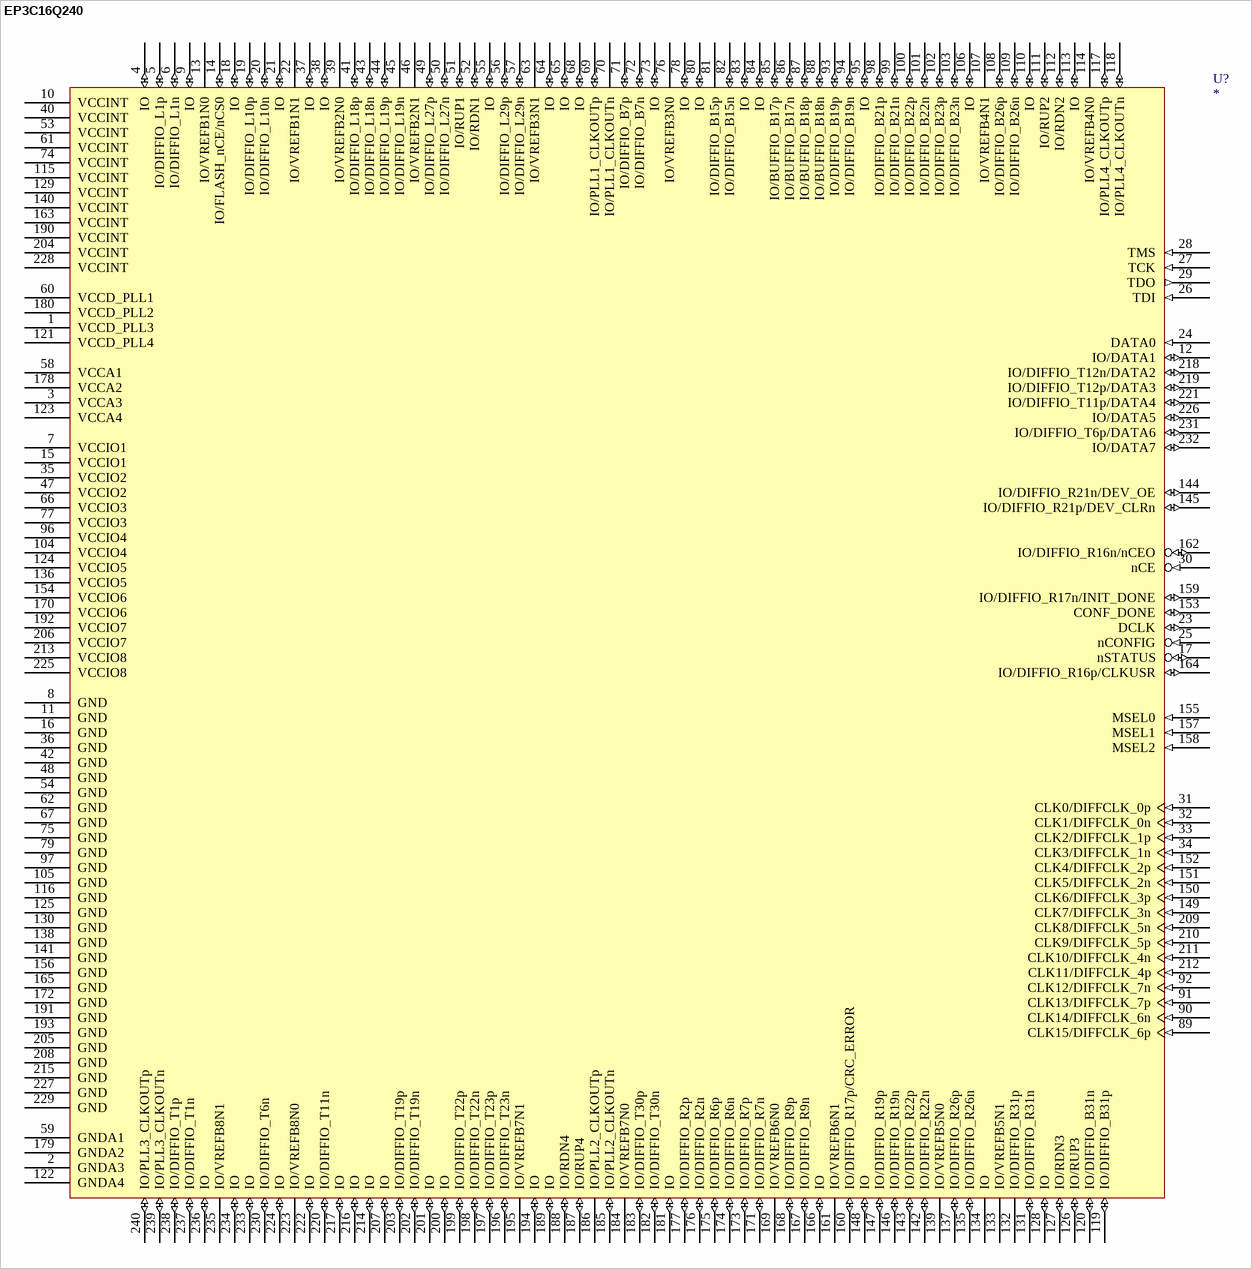
[diagram p3: symbol EP3C16Q240]

## EP3C16Q240
designator U?
Cyclone III EP3C-16 FPGA PQFP240
footprint PQFP240
pins: 1 VCCD_PLL3 (power), 2 GNDA3 (power), 3 VCCA3 (power), 4 IO (io), 5 IO/DIFFIO_L1p (io), 6 IO/DIFFIO_L1n (io), 7 VCCIO1, 8 GND (power), 9 IO (io), 10 VCCINT (power), 11 GND (power), 12 IO/DATA1 (io), 13 IO/VREFB1N0, 14 IO/FLASH_nCE/nCS0 (io), 15 VCCIO1 (power), 16 GND (power), 17 nSTATUS (io), 18 IO (io), 19 IO/DIFFIO_L10p (io), 20 IO/DIFFIO_L10n (io), 21 IO (io), 22 IO/VREFB1N1, 23 DCLK (io), 24 DATA0 (in), 25 nCONFIG (in), 26 TDI (in), 27 TCK (in), 28 TMS (in), 29 TDO (out), 30 nCE (in), 31 CLK0/DIFFCLK_0p (in), 32 CLK1/DIFFCLK_0n (in), 33 CLK2/DIFFCLK_1p (in), 34 CLK3/DIFFCLK_1n (in), 35 VCCIO2 (power), 36 GND, 37 IO (io), 38 IO (io), 39 IO/VREFB2N0, 40 VCCINT (power), 41 IO/DIFFIO_L18p (io), 42 GND, 43 IO/DIFFIO_L18n (io), 44 IO/DIFFIO_L19p (io), 45 IO/DIFFIO_L19n, 46 IO/VREFB2N1, 47 VCCIO2 (power), 48 GND (power), 49 IO/DIFFIO_L27p (io), 50 IO/DIFFIO_L27n (io), 51 IO/RUP1 (io), 52 IO/RDN1 (io), 53 VCCINT (power), 54 GND (power), 55 IO (io), 56 IO/DIFFIO_L29p (io), 57 IO/DIFFIO_L29n (io), 58 VCCA1 (power), 59 GNDA1 (power), 60 VCCD_PLL1 (power), 61 VCCINT (power), 62 GND (power), 63 IO/VREFB3N1, 64 IO (io), 65 IO (io), 66 VCCIO3 (power), 67 GND, 68 IO (io), 69 IO/PLL1_CLKOUTp (io), 70 IO/PLL1_CLKOUTn, 71 IO/DIFFIO_B7p (io), 72 IO/DIFFIO_B7n (io), 73 IO (io), 74 VCCINT (power), 75 GND (power), 76 IO/VREFB3N0, 77 VCCIO3 (power), 78 IO (io), 79 GND (power), 80 IO (io), 81 IO/DIFFIO_B15p, 82 IO/DIFFIO_B15n (io), 83 IO (io), 84 IO (io), 85 IO/BUFFIO_B17p (io), 86 IO/BUFFIO_B17n (io), 87 IO/BUFFIO_B18p (io), 88 IO/BUFFIO_B18n (io), 89 CLK15/DIFFCLK_6p (in), 90 CLK14/DIFFCLK_6n (in), 91 CLK13/DIFFCLK_7p (in), 92 CLK12/DIFFCLK_7n (in), 93 IO/DIFFIO_B19p (io), 94 IO/DIFFIO_B19n (io), 95 IO (io), 96 VCCIO4 (power), 97 GND (power), 98 IO/DIFFIO_B21p (io), 99 IO/DIFFIO_B21n (io), 100 IO/DIFFIO_B22p (io), 101 IO/DIFFIO_B22n (io), 102 IO/DIFFIO_B23p (io), 103 IO/DIFFIO_B23n (io), 104 VCCIO4 (power), 105 GND (power), 106 IO (io), 107 IO/VREFB4N1, 108 IO/DIFFIO_B26p (io), 109 IO/DIFFIO_B26n (io), 110 IO (io), 111 IO/RUP2 (io), 112 IO/RDN2 (io), 113 IO (io), 114 IO/VREFB4N0, 115 VCCINT (power), 116 GND (power), 117 IO/PLL4_CLKOUTp (io), 118 IO/PLL4_CLKOUTn (io), 119 IO/DIFFIO_B31p (io), 120 IO/DIFFIO_B31n (io), 121 VCCD_PLL4 (power), 122 GNDA4 (power), 123 VCCA4 (power), 124 VCCIO5 (power), 125 GND, 126 IO/RUP3 (io), 127 IO/RDN3 (io), 128 IO (io), 129 VCCINT (power), 130 GND (power), 131 IO/DIFFIO_R31n (io), 132 IO/DIFFIO_R31p, 133 IO/VREFB5N1, 134 IO, 135 IO/DIFFIO_R26n (io), 136 VCCIO5 (power), 137 IO/DIFFIO_R26p (io), 138 GND (power), 139 IO/VREFB5N0, 140 VCCINT (power), 141 GND (power), 142 IO/DIFFIO_R22n (io), 143 IO/DIFFIO_R22p (io), 144 IO/DIFFIO_R21n/DEV_OE (io), 145 IO/DIFFIO_R21p/DEV_CLRn (io), 146 IO/DIFFIO_R19n (io), 147 IO/DIFFIO_R19p (io), 148 IO (io), 149 CLK7/DIFFCLK_3n (in), 150 CLK6/DIFFCLK_3p (in), 151 CLK5/DIFFCLK_2n (in), 152 CLK4/DIFFCLK_2p (in), 153 CONF_DONE (io), 154 VCCIO6 (power), 155 MSEL0 (in), 156 GND (power), 157 MSEL1 (in), 158 MSEL2 (in), 159 IO/DIFFIO_R17n/INIT_DONE (io), 160 IO/DIFFIO_R17p/CRC_ERROR (io), 161 IO/VREFB6N1, 162 IO/DIFFIO_R16n/nCEO (io), 163 VCCINT (power), 164 IO/DIFFIO_R16p/CLKUSR (io), 165 GND (power), 166 IO (io), 167 IO/DIFFIO_R9n (io), 168 IO/DIFFIO_R9p (io), 169 IO/VREFB6N0, 170 VCCIO6 (power), 171 IO/DIFFIO_R7n (io), 172 GND (power), 173 IO/DIFFIO_R7p (io), 174 IO/DIFFIO_R6n (io), 175 IO/DIFFIO_R6p (io), 176 IO/DIFFIO_R2n (io), 177 IO/DIFFIO_R2p (io), 178 VCCA2 (power), 179 GNDA2 (power), 180 VCCD_PLL2 (power), 181 IO (io), 182 IO/DIFFIO_T30n (io), 183 IO/DIFFIO_T30p (io), 184 IO/VREFB7N0, 185 IO/PLL2_CLKOUTn (io), 186 IO/PLL2_CLKOUTp, 187 IO/RUP4 (io), 188 IO/RDN4 (io), 189 IO (io), 190 VCCINT (power), 191 GND (power), 192 VCCIO7 (power), 193 GND (power), 194 IO (io), 195 IO/VREFB7N1, 196 IO/DIFFIO_T23n (io), 197 IO/DIFFIO_T23p (io), 198 IO/DIFFIO_T22n (io), 199 IO/DIFFIO_T22p (io), 200 IO (io), 201 IO (io), 202 IO/DIFFIO_T19n (io), 203 IO/DIFFIO_T19p (io), 204 VCCINT (power), 205 GND (power), 206 VCCIO7 (power), 207 IO (io), 208 GND (power), 209 CLK8/DIFFCLK_5n (in), 210 CLK9/DIFFCLK_5p (in), 211 CLK10/DIFFCLK_4n (in), 212 CLK11/DIFFCLK_4p (in), 213 VCCIO8 (power), 214 IO (io), 215 GND (power), 216 IO (io), 217 IO (io), 218 IO/DIFFIO_T12n/DATA2 (io), 219 IO/DIFFIO_T12p/DATA3 (io), 220 IO/DIFFIO_T11n (io), 221 IO/DIFFIO_T11p/DATA4 (io), 222 IO (io), 223 IO/VREFB8N0, 224 IO (io), 225 VCCIO8 (power), 226 IO/DATA5 (io), 227 GND (power), 228 VCCINT (power), 229 GND (power), 230 IO/DIFFIO_T6n (io), 231 IO/DIFFIO_T6p/DATA6 (io), 232 IO/DATA7 (io), 233 IO (io), 234 IO (io), 235 IO/VREFB8N1, 236 IO (io), 237 IO/DIFFIO_T1n (io), 238 IO/DIFFIO_T1p (io), 239 IO/PLL3_CLKOUTn (io), 240 IO/PLL3_CLKOUTp (io)

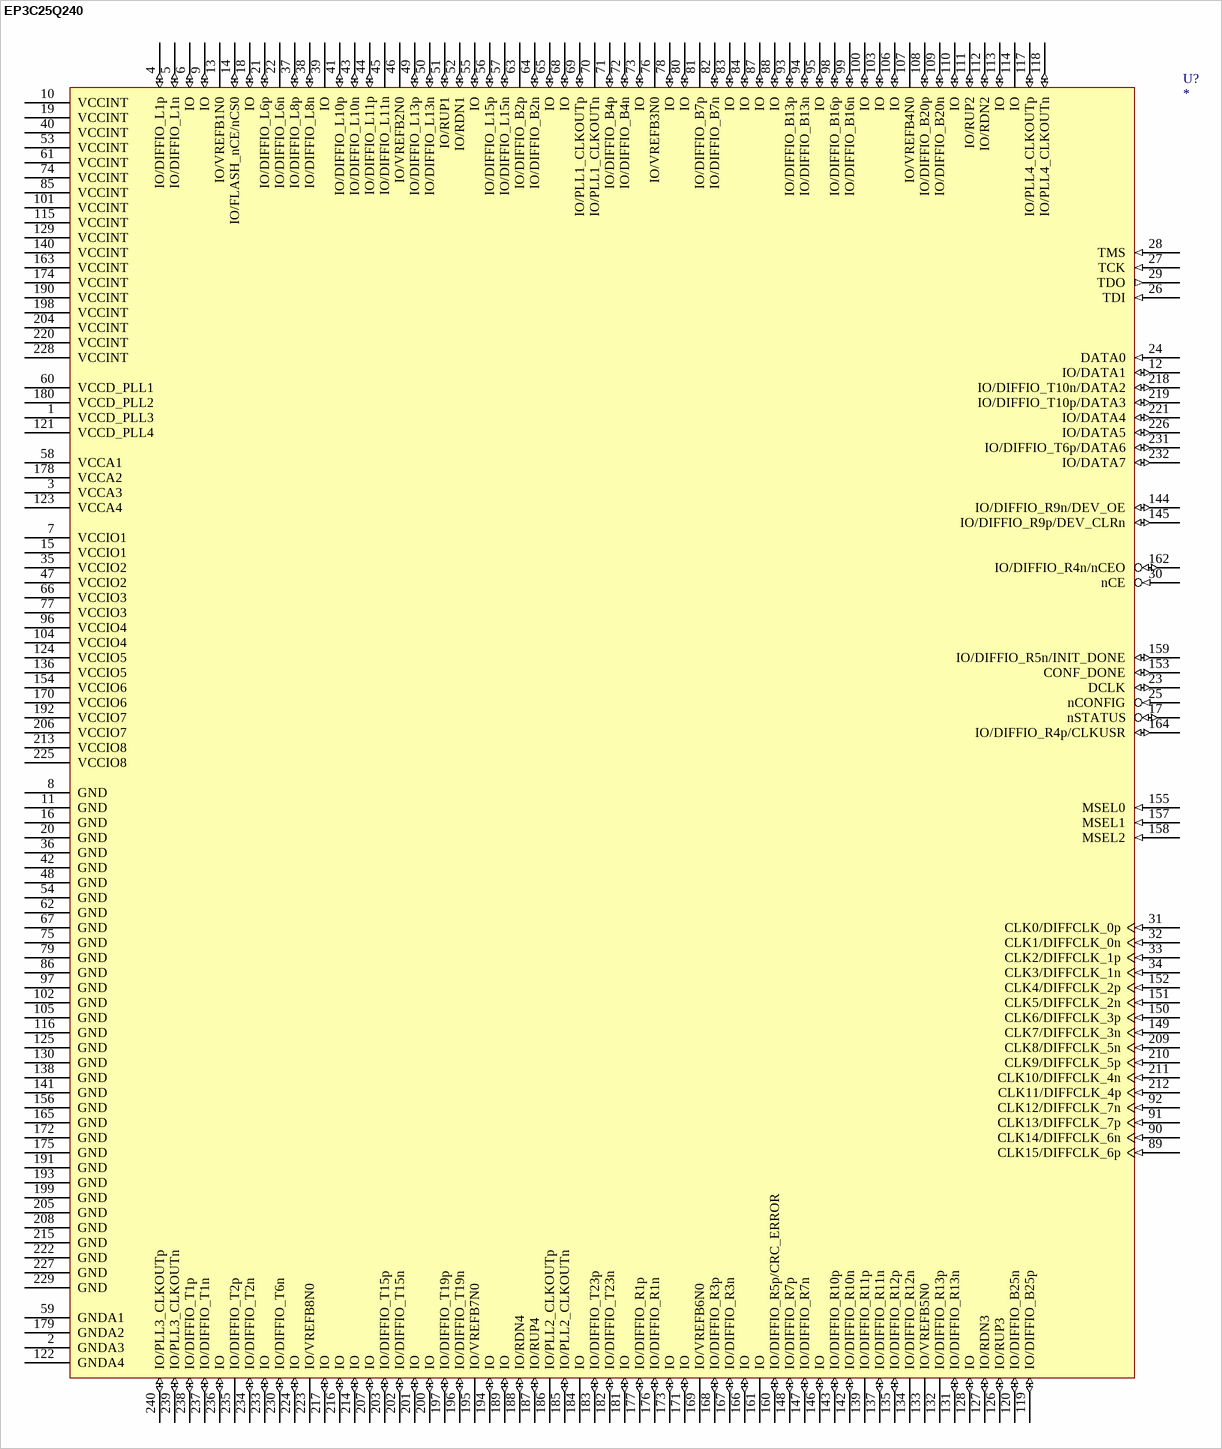
[diagram p4: symbol EP3C25Q240]

## EP3C25Q240
designator U?
Cyclone III EP3C-25 FPGA PQFP240
footprint PQFP240
pins: 1 VCCD_PLL3 (power), 2 GNDA3 (power), 3 VCCA3 (power), 4 IO/DIFFIO_L1p (io), 5 IO/DIFFIO_L1n (io), 6 IO (io), 7 VCCIO1, 8 GND (power), 9 IO (io), 10 VCCINT (power), 11 GND (power), 12 IO/DATA1 (io), 13 IO/VREFB1N0, 14 IO/FLASH_nCE/nCS0 (io), 15 VCCIO1 (power), 16 GND (power), 17 nSTATUS (io), 18 IO (io), 19 VCCINT (power), 20 GND (power), 21 IO/DIFFIO_L6p (io), 22 IO/DIFFIO_L6n, 23 DCLK (io), 24 DATA0 (in), 25 nCONFIG (in), 26 TDI (in), 27 TCK (in), 28 TMS (in), 29 TDO (out), 30 nCE (in), 31 CLK0/DIFFCLK_0p (in), 32 CLK1/DIFFCLK_0n (in), 33 CLK2/DIFFCLK_1p (in), 34 CLK3/DIFFCLK_1n (in), 35 VCCIO2 (power), 36 GND, 37 IO/DIFFIO_L8p (io), 38 IO/DIFFIO_L8n (io), 39 IO, 40 VCCINT (power), 41 IO/DIFFIO_L10p (io), 42 GND, 43 IO/DIFFIO_L10n (io), 44 IO/DIFFIO_L11p (io), 45 IO/DIFFIO_L11n, 46 IO/VREFB2N0, 47 VCCIO2 (power), 48 GND (power), 49 IO/DIFFIO_L13p (io), 50 IO/DIFFIO_L13n (io), 51 IO/RUP1 (io), 52 IO/RDN1 (io), 53 VCCINT (power), 54 GND (power), 55 IO (io), 56 IO/DIFFIO_L15p (io), 57 IO/DIFFIO_L15n (io), 58 VCCA1 (power), 59 GNDA1 (power), 60 VCCD_PLL1 (power), 61 VCCINT (power), 62 GND (power), 63 IO/DIFFIO_B2p, 64 IO/DIFFIO_B2n (io), 65 IO (io), 66 VCCIO3 (power), 67 GND, 68 IO (io), 69 IO/PLL1_CLKOUTp (io), 70 IO/PLL1_CLKOUTn, 71 IO/DIFFIO_B4p (io), 72 IO/DIFFIO_B4n (io), 73 IO (io), 74 VCCINT (power), 75 GND (power), 76 IO/VREFB3N0, 77 VCCIO3 (power), 78 IO (io), 79 GND (power), 80 IO (io), 81 IO/DIFFIO_B7p, 82 IO/DIFFIO_B7n (io), 83 IO (io), 84 IO (io), 85 VCCINT (power), 86 GND (power), 87 IO (io), 88 IO (io), 89 CLK15/DIFFCLK_6p (in), 90 CLK14/DIFFCLK_6n (in), 91 CLK13/DIFFCLK_7p (in), 92 CLK12/DIFFCLK_7n (in), 93 IO/DIFFIO_B13p (io), 94 IO/DIFFIO_B13n (io), 95 IO (io), 96 VCCIO4 (power), 97 GND (power), 98 IO/DIFFIO_B16p (io), 99 IO/DIFFIO_B16n (io), 100 IO (io), 101 VCCINT (power), 102 GND (power), 103 IO (io), 104 VCCIO4 (power), 105 GND (power), 106 IO (io), 107 IO/VREFB4N0, 108 IO/DIFFIO_B20p (io), 109 IO/DIFFIO_B20n (io), 110 IO (io), 111 IO/RUP2 (io), 112 IO/RDN2 (io), 113 IO (io), 114 IO, 115 VCCINT (power), 116 GND (power), 117 IO/PLL4_CLKOUTp (io), 118 IO/PLL4_CLKOUTn (io), 119 IO/DIFFIO_B25p (io), 120 IO/DIFFIO_B25n (io), 121 VCCD_PLL4 (power), 122 GNDA4 (power), 123 VCCA4 (power), 124 VCCIO5 (power), 125 GND, 126 IO/RUP3 (io), 127 IO/RDN3 (io), 128 IO (io), 129 VCCINT (power), 130 GND (power), 131 IO/DIFFIO_R13n (io), 132 IO/DIFFIO_R13p, 133 IO/VREFB5N0, 134 IO/DIFFIO_R12n, 135 IO/DIFFIO_R12p (io), 136 VCCIO5 (power), 137 IO/DIFFIO_R11n (io), 138 GND (power), 139 IO/DIFFIO_R11p, 140 VCCINT (power), 141 GND (power), 142 IO/DIFFIO_R10n (io), 143 IO/DIFFIO_R10p (io), 144 IO/DIFFIO_R9n/DEV_OE (io), 145 IO/DIFFIO_R9p/DEV_CLRn (io), 146 IO (io), 147 IO/DIFFIO_R7n (io), 148 IO/DIFFIO_R7p (io), 149 CLK7/DIFFCLK_3n (in), 150 CLK6/DIFFCLK_3p (in), 151 CLK5/DIFFCLK_2n (in), 152 CLK4/DIFFCLK_2p (in), 153 CONF_DONE (io), 154 VCCIO6 (power), 155 MSEL0 (in), 156 GND (power), 157 MSEL1 (in), 158 MSEL2 (in), 159 IO/DIFFIO_R5n/INIT_DONE (io), 160 IO/DIFFIO_R5p/CRC_ERROR (io), 161 IO, 162 IO/DIFFIO_R4n/nCEO (io), 163 VCCINT (power), 164 IO/DIFFIO_R4p/CLKUSR (io), 165 GND (power), 166 IO (io), 167 IO/DIFFIO_R3n (io), 168 IO/DIFFIO_R3p (io), 169 IO/VREFB6N0, 170 VCCIO6 (power), 171 IO (io), 172 GND (power), 173 IO (io), 174 VCCINT (power), 175 GND (power), 176 IO/DIFFIO_R1n (io), 177 IO/DIFFIO_R1p (io), 178 VCCA2 (power), 179 GNDA2 (power), 180 VCCD_PLL2 (power), 181 IO (io), 182 IO/DIFFIO_T23n (io), 183 IO/DIFFIO_T23p (io), 184 IO, 185 IO/PLL2_CLKOUTn (io), 186 IO/PLL2_CLKOUTp, 187 IO/RUP4 (io), 188 IO/RDN4 (io), 189 IO (io), 190 VCCINT (power), 191 GND (power), 192 VCCIO7 (power), 193 GND (power), 194 IO (io), 195 IO/VREFB7N0, 196 IO/DIFFIO_T19n (io), 197 IO/DIFFIO_T19p (io), 198 VCCINT (power), 199 GND (power), 200 IO (io), 201 IO (io), 202 IO/DIFFIO_T15n (io), 203 IO/DIFFIO_T15p (io), 204 VCCINT (power), 205 GND (power), 206 VCCIO7 (power), 207 IO (io), 208 GND (power), 209 CLK8/DIFFCLK_5n (in), 210 CLK9/DIFFCLK_5p (in), 211 CLK10/DIFFCLK_4n (in), 212 CLK11/DIFFCLK_4p (in), 213 VCCIO8 (power), 214 IO (io), 215 GND (power), 216 IO (io), 217 IO (io), 218 IO/DIFFIO_T10n/DATA2 (io), 219 IO/DIFFIO_T10p/DATA3 (io), 220 VCCINT (power), 221 IO/DATA4 (io), 222 GND (power), 223 IO/VREFB8N0, 224 IO (io), 225 VCCIO8 (power), 226 IO/DATA5 (io), 227 GND (power), 228 VCCINT (power), 229 GND (power), 230 IO/DIFFIO_T6n (io), 231 IO/DIFFIO_T6p/DATA6 (io), 232 IO/DATA7 (io), 233 IO (io), 234 IO/DIFFIO_T2n (io), 235 IO/DIFFIO_T2p, 236 IO (io), 237 IO/DIFFIO_T1n (io), 238 IO/DIFFIO_T1p (io), 239 IO/PLL3_CLKOUTn (io), 240 IO/PLL3_CLKOUTp (io)

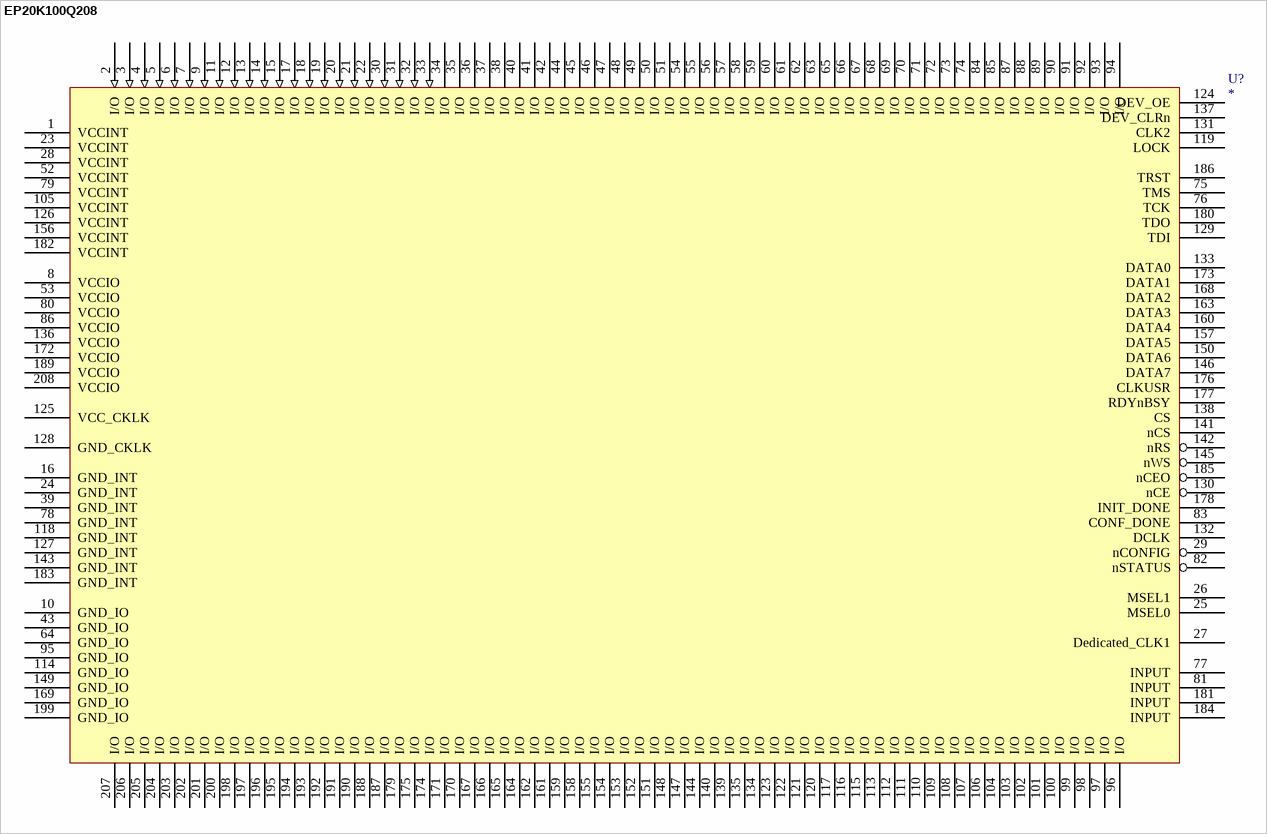
[diagram p5: symbol EP20K100Q208]

## EP20K100Q208
designator U?
Apex20K200 208-pin PQFP
footprint PQFP208
pins: 1 VCCINT, 2 I/O (in), 3 I/O (in), 4 I/O (in), 5 I/O (in), 6 I/O (in), 7 I/O (in), 8 VCCIO, 9 I/O (in), 10 GND_IO, 11 I/O (in), 12 I/O (in), 13 I/O (in), 14 I/O (in), 15 I/O (in), 16 GND_INT, 17 I/O (in), 18 I/O (in), 19 I/O (in), 20 I/O (in), 21 I/O (in), 22 I/O (in), 23 VCCINT, 24 GND_INT, 25 MSEL0, 26 MSEL1, 27 Dedicated_CLK1, 28 VCCINT, 29 nCONFIG, 30 I/O (in), 31 I/O (in), 32 I/O (in), 33 I/O (in), 34 I/O, 35 I/O, 36 I/O, 37 I/O, 38 I/O, 39 GND_INT, 40 I/O, 41 I/O, 42 I/O, 43 GND_IO, 44 I/O, 45 I/O, 46 I/O, 47 I/O, 48 I/O, 49 I/O, 50 I/O, 51 I/O, 52 VCCINT, 53 VCCIO, 54 I/O, 55 I/O, 56 I/O, 57 I/O, 58 I/O, 59 I/O, 60 I/O, 61 I/O, 62 I/O, 63 I/O, 64 GND_IO, 65 I/O, 66 I/O, 67 I/O, 68 I/O, 69 I/O, 70 I/O, 71 I/O, 72 I/O, 73 I/O, 74 I/O, 75 TMS, 76 TCK, 77 INPUT, 78 GND_INT, 79 VCCINT, 80 VCCIO, 81 INPUT, 82 nSTATUS, 83 CONF_DONE, 84 I/O, 85 I/O, 86 VCCIO, 87 I/O, 88 I/O, 89 I/O, 90 I/O, 91 I/O, 92 I/O, 93 I/O, 94 I/O, 95 GND_IO, 96 I/O, 97 I/O, 98 I/O, 99 I/O, 100 I/O, 101 I/O, 102 I/O, 103 I/O, 104 I/O, 105 VCCINT, 106 I/O, 107 I/O, 108 I/O, 109 I/O, 110 I/O, 111 I/O, 112 I/O, 113 I/O, 114 GND_IO, 115 I/O, 116 I/O, 117 I/O, 118 GND_INT, 119 LOCK, 120 I/O, 121 I/O, 122 I/O, 123 I/O, 124 DEV_OE, 125 VCC_CKLK, 126 VCCINT, 127 GND_INT, 128 GND_CKLK, 129 TDI, 130 nCE, 131 CLK2, 132 DCLK, 133 DATA0, 134 I/O, 135 I/O, 136 VCCIO, 137 DEV_CLRn, 138 CS, 139 I/O, 140 I/O, 141 nCS, 142 nRS, 143 GND_INT, 144 I/O, 145 nWS, 146 DATA7, 147 I/O, 148 I/O, 149 GND_IO, 150 DATA6, 151 I/O, 152 I/O, 153 I/O, 154 I/O, 155 I/O, 156 VCCINT, 157 DATA5, 158 I/O, 159 I/O, 160 DATA4, 161 I/O, 162 I/O, 163 DATA3, 164 I/O, 165 I/O, 166 I/O, 167 I/O, 168 DATA2, 169 GND_IO, 170 I/O, 171 I/O, 172 VCCIO, 173 DATA1, 174 I/O, 175 I/O, 176 CLKUSR, 177 RDYnBSY, 178 INIT_DONE, 179 I/O, 180 TDO, 181 INPUT, 182 VCCINT, 183 GND_INT, 184 INPUT, 185 nCEO, 186 TRST, 187 I/O, 188 I/O, 189 VCCIO, 190 I/O, 191 I/O, 192 I/O, 193 I/O, 194 I/O, 195 I/O, 196 I/O, 197 I/O, 198 I/O, 199 GND_IO, 200 I/O, 201 I/O, 202 I/O, 203 I/O, 204 I/O, 205 I/O, 206 I/O, 207 I/O, 208 VCCIO

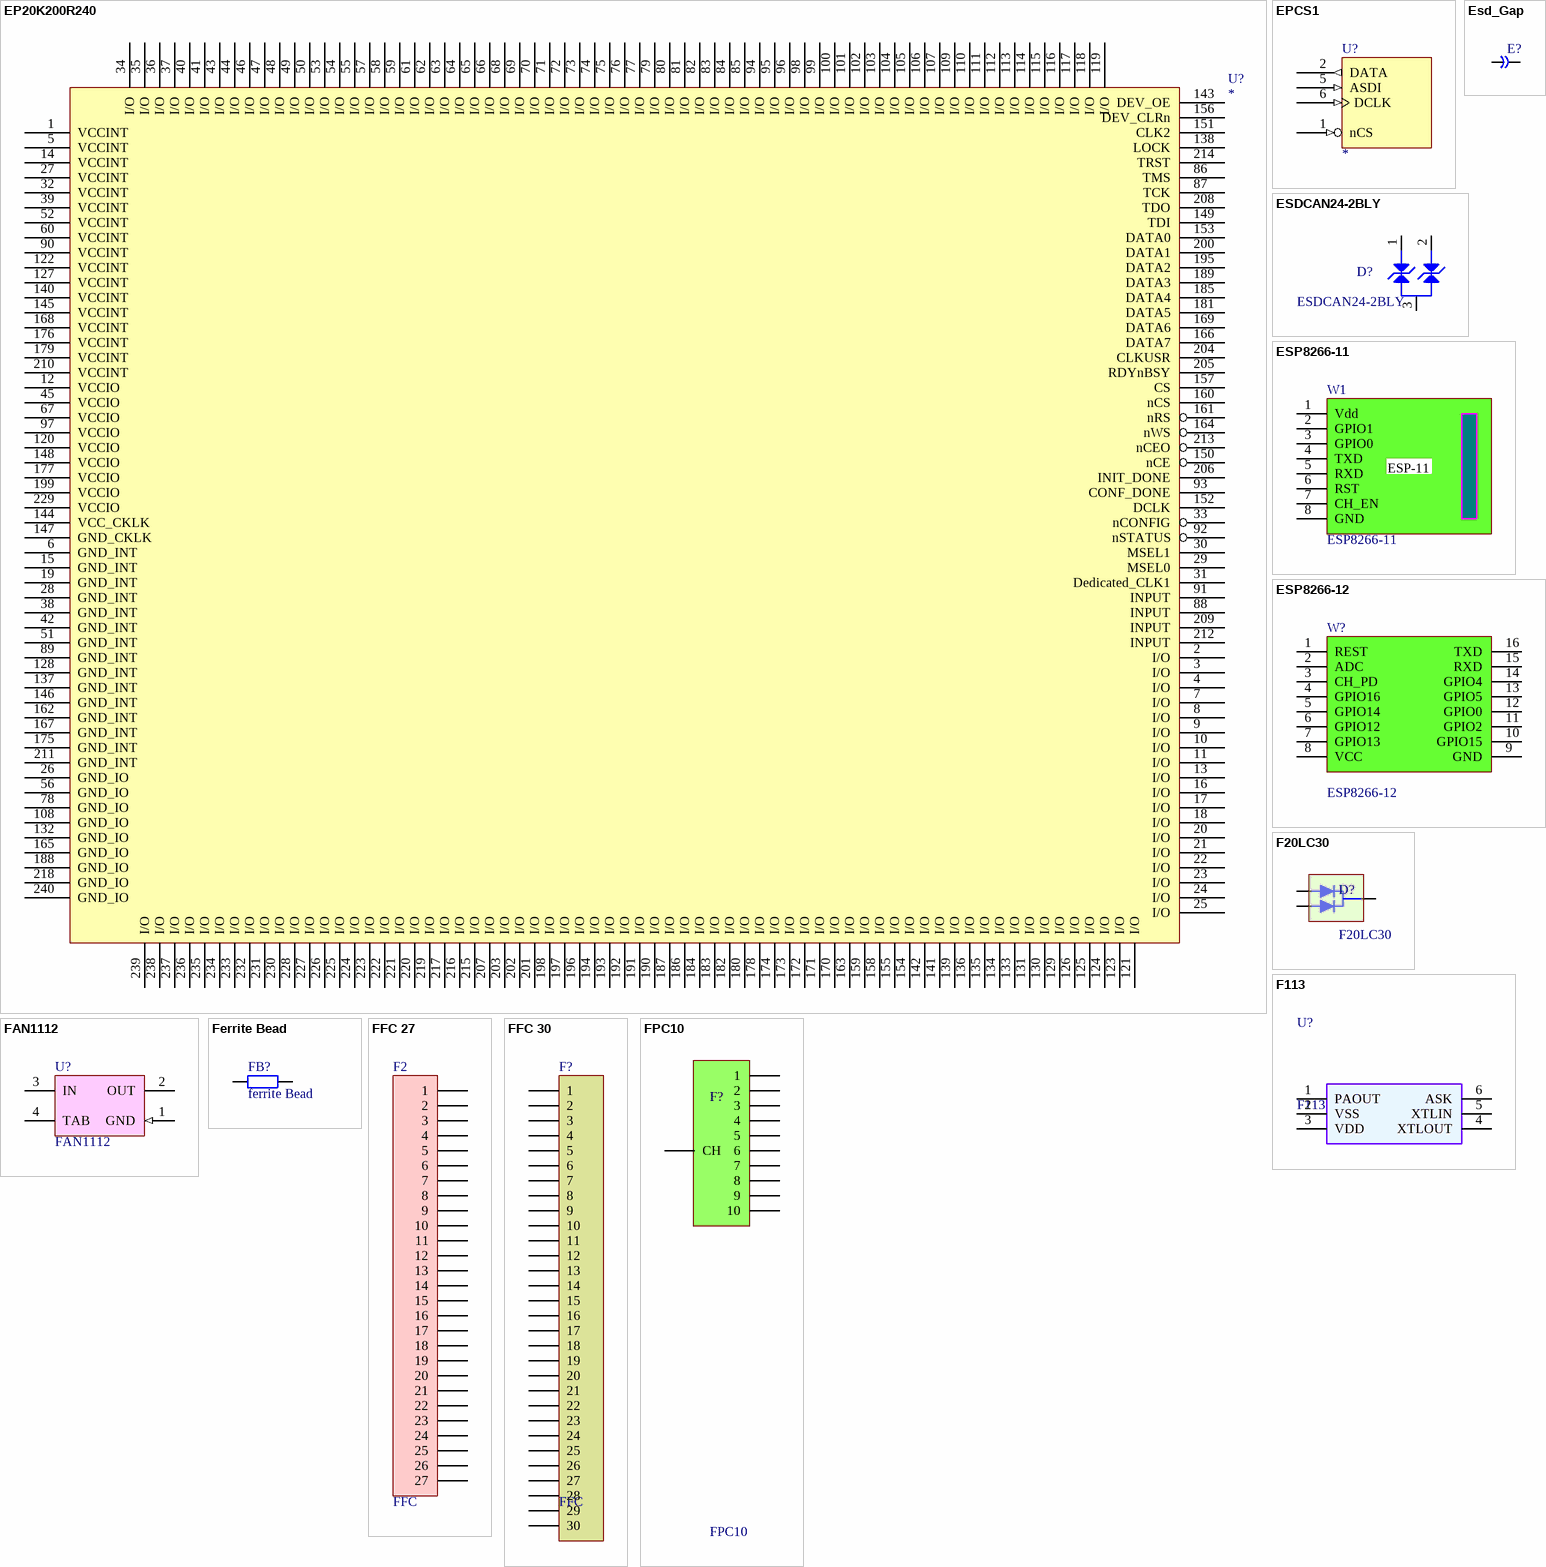
[diagram p6: symbols EP20K200R240 to FPC10]